# Altium integrated library Xilinx Spartan-3.IntLib: 174 symbols (part 3 of 43)
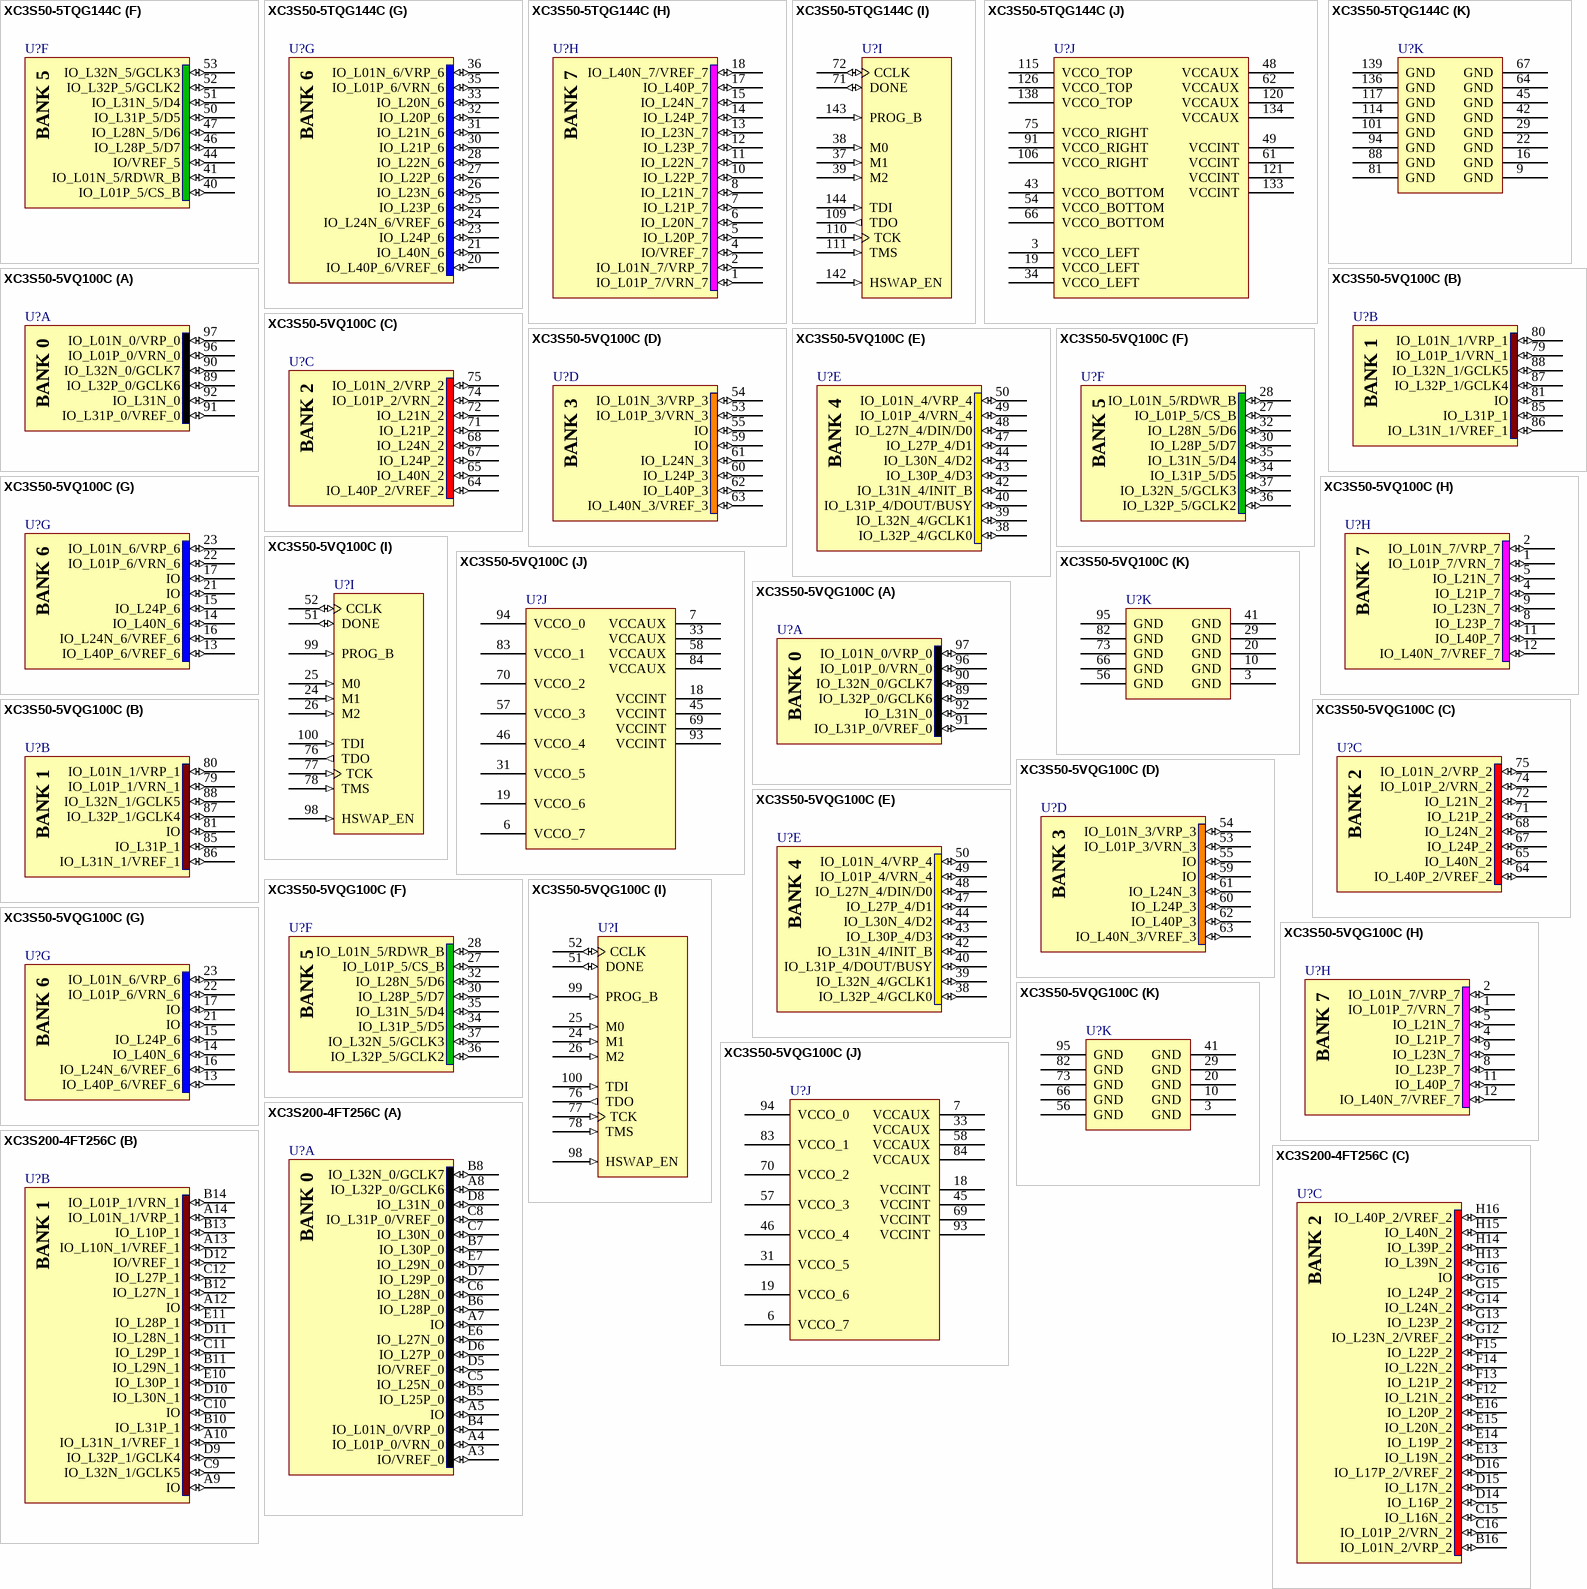
[diagram p194: symbols XC3S50-5TQG144C to XC3S200-4FT256C]

## XC3S50-5TQG144C
designator U?
Spartan-3 1.2V FPGA, 97 User I/Os, 144-Pin TQFP, High Performance, Commercial Grade, Pb-Free; OrderingInformation: Additional code may have to be appended for different mask revision devices.; Published: 16-Dec-2005; LatestRevisionDate: 01-Mar-2010; LatestRevisionNote: Updated to datasheet version 2.5 Dec-2009.; DatasheetVersion: ver2.5, Dec-2009; PackageVersion: ver1.2, Jun-2004; PackageReference: TQG144; Publisher: Altium Limited; PackageDescription: 144-Pin Thin Quad Flat Pack (TQG144) - Pb-Free; Supplier 1: Digi-Key; Supplier Part Number 1: XC3S50-5TQG144C-ND; Supplier 2: Farnell; Supplier Part Number 2: 1605839; Supplier 3: Newark; Supplier Part Number 3: 12N2462; Code_JEDEC: MS-026-BFB; ComponentLink1Description: Spartan-3 Datasheet; ComponentLink1URL: http://www.xilinx.com/support/documentation/data_sheets/ds099.pdf; ComponentLink2Description: TQG144 Package Drawing; ComponentLink2URL: http://www.xilinx.com/support/documentation/package_specs/tq144.pdf; ComponentLink3Description: Spartan-3 Documents; ComponentLink3URL: http://www.xilinx.com/support/documentation/spartan-3.htm; ComponentLink4Description: Xilinx.com Home; ComponentLink4URL: http://www.xilinx.com
footprint TQG144_N (Thin QFP, 144-Leads, Body 20x20mm, Pitch 0.5mm, IPC Medium Density)
footprint TQG144_L (Thin QFP, 144-Leads, Body 20x20mm, Pitch 0.5mm, IPC High Density)
footprint TQG144_M (Thin QFP, 144-Leads, Body 20x20mm, Pitch 0.5mm, IPC Low Density)
signal-integrity model XC3S50_TQ144 (Spartan-3)
part A pins: 127 IO_L32P_0/GCLK6 (io), 128 IO_L32N_0/GCLK7 (io), 129 IO_L31P_0/VREF_0 (io), 130 IO_L31N_0 (io), 131 IO_L30P_0 (io), 132 IO_L30N_0 (io), 135 IO_L27P_0 (io), 137 IO_L27N_0 (io), 140 IO_L01P_0/VRN_0 (io), 141 IO_L01N_0/VRP_0 (io)
part B pins: 112 IO_L01P_1/VRN_1 (io), 113 IO_L01N_1/VRP_1 (io), 116 IO (io), 118 IO_L28P_1 (io), 119 IO_L28N_1 (io), 122 IO_L31P_1 (io), 123 IO_L31N_1/VREF_1 (io), 124 IO_L32P_1/GCLK4 (io), 125 IO_L32N_1/GCLK5 (io)
part C pins: 92 IO_L40P_2/VREF_2 (io), 93 IO_L40N_2 (io), 95 IO_L24P_2 (io), 96 IO_L24N_2 (io), 97 IO_L23P_2 (io), 98 IO_L23N_2/VREF_2 (io), 99 IO_L22P_2 (io), 100 IO_L22N_2 (io), 102 IO_L21P_2 (io), 103 IO_L21N_2 (io), 104 IO_L20P_2 (io), 105 IO_L20N_2 (io), 107 IO_L01P_2/VRN_2 (io), 108 IO_L01N_2/VRP_2 (io)
part D pins: 73 IO_L01P_3/VRN_3 (io), 74 IO_L01N_3/VRP_3 (io), 76 IO (io), 77 IO_L20P_3 (io), 78 IO_L20N_3 (io), 79 IO_L21P_3 (io), 80 IO_L21N_3 (io), 82 IO_L22P_3 (io), 83 IO_L22N_3 (io), 84 IO_L23P_3/VREF_3 (io), 85 IO_L23N_3 (io), 86 IO_L24P_3 (io), 87 IO_L24N_3 (io), 89 IO_L40P_3 (io), 90 IO_L40N_3/VREF_3 (io)
part E pins: 55 IO_L32P_4/GCLK0 (io), 56 IO_L32N_4/GCLK1 (io), 57 IO_L31P_4/DOUT/BUSY (io), 58 IO_L31N_4/INIT_B (io), 59 IO_L30P_4/D3 (io), 60 IO_L30N_4/D2 (io), 63 IO_L27P_4/D1 (io), 65 IO_L27N_4/DIN/D0 (io), 68 IO_L01P_4/VRN_4 (io), 69 IO_L01N_4/VRP_4 (io), 70 IO/VREF_4 (io)
part F pins: 40 IO_L01P_5/CS_B (io), 41 IO_L01N_5/RDWR_B (io), 44 IO/VREF_5 (io), 46 IO_L28P_5/D7 (io), 47 IO_L28N_5/D6 (io), 50 IO_L31P_5/D5 (io), 51 IO_L31N_5/D4 (io), 52 IO_L32P_5/GCLK2 (io), 53 IO_L32N_5/GCLK3 (io)
part G pins: 20 IO_L40P_6/VREF_6 (io), 21 IO_L40N_6 (io), 23 IO_L24P_6 (io), 24 IO_L24N_6/VREF_6 (io), 25 IO_L23P_6 (io), 26 IO_L23N_6 (io), 27 IO_L22P_6 (io), 28 IO_L22N_6 (io), 30 IO_L21P_6 (io), 31 IO_L21N_6 (io), 32 IO_L20P_6 (io), 33 IO_L20N_6 (io), 35 IO_L01P_6/VRN_6 (io), 36 IO_L01N_6/VRP_6 (io)
part H pins: 1 IO_L01P_7/VRN_7 (io), 2 IO_L01N_7/VRP_7 (io), 4 IO/VREF_7 (io), 5 IO_L20P_7 (io), 6 IO_L20N_7 (io), 7 IO_L21P_7 (io), 8 IO_L21N_7 (io), 10 IO_L22P_7 (io), 11 IO_L22N_7 (io), 12 IO_L23P_7 (io), 13 IO_L23N_7 (io), 14 IO_L24P_7 (io), 15 IO_L24N_7 (io), 17 IO_L40P_7 (io), 18 IO_L40N_7/VREF_7 (io)
part I pins: 37 M1 (in), 38 M0 (in), 39 M2 (in), 71 DONE (io), 72 CCLK (io), 109 TDO (out), 110 TCK (in), 111 TMS (in), 142 HSWAP_EN (in), 143 PROG_B (in), 144 TDI (in)
part J pins: 3 VCCO_LEFT (power), 19 VCCO_LEFT (power), 34 VCCO_LEFT (power), 43 VCCO_BOTTOM (power), 48 VCCAUX (power), 49 VCCINT (power), 54 VCCO_BOTTOM (power), 61 VCCINT (power), 62 VCCAUX (power), 66 VCCO_BOTTOM (power), 75 VCCO_RIGHT (power), 91 VCCO_RIGHT (power), 106 VCCO_RIGHT (power), 115 VCCO_TOP (power), 120 VCCAUX (power), 121 VCCINT (power), 126 VCCO_TOP (power), 133 VCCINT (power), 134 VCCAUX (power), 138 VCCO_TOP (power)
part K pins: 9 GND (power), 16 GND (power), 22 GND (power), 29 GND (power), 42 GND (power), 45 GND (power), 64 GND (power), 67 GND (power), 81 GND (power), 88 GND (power), 94 GND (power), 101 GND (power), 114 GND (power), 117 GND (power), 136 GND (power), 139 GND (power)
part A text: BANK 0
part B text: BANK 1
part C text: BANK 2
part D text: BANK 3
part E text: BANK 4
part F text: BANK 5
part G text: BANK 6
part H text: BANK 7

## XC3S50-5VQ100C
designator U?
Spartan-3 1.2V FPGA, 63 User I/Os, 100-Pin VQFP, High Performance, Commercial Grade; OrderingInformation: Additional code may have to be appended for different mask revision devices.; Published: 17-Sep-2003; LatestRevisionDate: 01-Mar-2010; LatestRevisionNote: Updated to datasheet version 2.5 Dec-2009.; DatasheetVersion: ver2.5, Dec-2009; PackageVersion: ver1.2.1, Feb-2007; PackageReference: VQ100; Publisher: Altium Limited; PackageDescription: 100-Pin Very Thin Quad Flat Pack (VQ100); Code_JEDEC: MS-026-AED; ComponentLink1Description: Spartan-3 Datasheet; ComponentLink1URL: http://www.xilinx.com/support/documentation/data_sheets/ds099.pdf; ComponentLink2Description: VQ100 Package Drawing; ComponentLink2URL: http://www.xilinx.com/support/documentation/package_specs/vq100.pdf; ComponentLink3Description: Spartan-3 Documents; ComponentLink3URL: http://www.xilinx.com/support/documentation/spartan-3.htm; ComponentLink4Description: Xilinx.com Home; ComponentLink4URL: http://www.xilinx.com
footprint VQ100_N (Thin QFP, 100-Leads, Body 14x14mm, Pitch 0.5mm, IPC Medium Density)
footprint VQ100_L (Thin QFP, 100-Leads, Body 14x14mm, Pitch 0.5mm, IPC High Density)
footprint VQ100_M (Thin QFP, 100-Leads, Body 14x14mm, Pitch 0.5mm, IPC Low Density)
signal-integrity model XC3S50_VQ100 (Spartan-3)
part A pins: 89 IO_L32P_0/GCLK6 (io), 90 IO_L32N_0/GCLK7 (io), 91 IO_L31P_0/VREF_0 (io), 92 IO_L31N_0 (io), 96 IO_L01P_0/VRN_0 (io), 97 IO_L01N_0/VRP_0 (io)
part B pins: 79 IO_L01P_1/VRN_1 (io), 80 IO_L01N_1/VRP_1 (io), 81 IO (io), 85 IO_L31P_1 (io), 86 IO_L31N_1/VREF_1 (io), 87 IO_L32P_1/GCLK4 (io), 88 IO_L32N_1/GCLK5 (io)
part C pins: 64 IO_L40P_2/VREF_2 (io), 65 IO_L40N_2 (io), 67 IO_L24P_2 (io), 68 IO_L24N_2 (io), 71 IO_L21P_2 (io), 72 IO_L21N_2 (io), 74 IO_L01P_2/VRN_2 (io), 75 IO_L01N_2/VRP_2 (io)
part D pins: 53 IO_L01P_3/VRN_3 (io), 54 IO_L01N_3/VRP_3 (io), 55 IO (io), 59 IO (io), 60 IO_L24P_3 (io), 61 IO_L24N_3 (io), 62 IO_L40P_3 (io), 63 IO_L40N_3/VREF_3 (io)
part E pins: 38 IO_L32P_4/GCLK0 (io), 39 IO_L32N_4/GCLK1 (io), 40 IO_L31P_4/DOUT/BUSY (io), 42 IO_L31N_4/INIT_B (io), 43 IO_L30P_4/D3 (io), 44 IO_L30N_4/D2 (io), 47 IO_L27P_4/D1 (io), 48 IO_L27N_4/DIN/D0 (io), 49 IO_L01P_4/VRN_4 (io), 50 IO_L01N_4/VRP_4 (io)
part F pins: 27 IO_L01P_5/CS_B (io), 28 IO_L01N_5/RDWR_B (io), 30 IO_L28P_5/D7 (io), 32 IO_L28N_5/D6 (io), 34 IO_L31P_5/D5 (io), 35 IO_L31N_5/D4 (io), 36 IO_L32P_5/GCLK2 (io), 37 IO_L32N_5/GCLK3 (io)
part G pins: 13 IO_L40P_6/VREF_6 (io), 14 IO_L40N_6 (io), 15 IO_L24P_6 (io), 16 IO_L24N_6/VREF_6 (io), 17 IO (io), 21 IO (io), 22 IO_L01P_6/VRN_6 (io), 23 IO_L01N_6/VRP_6 (io)
part H pins: 1 IO_L01P_7/VRN_7 (io), 2 IO_L01N_7/VRP_7 (io), 4 IO_L21P_7 (io), 5 IO_L21N_7 (io), 8 IO_L23P_7 (io), 9 IO_L23N_7 (io), 11 IO_L40P_7 (io), 12 IO_L40N_7/VREF_7 (io)
part I pins: 24 M1 (in), 25 M0 (in), 26 M2 (in), 51 DONE (io), 52 CCLK (io), 76 TDO (out), 77 TCK (in), 78 TMS (in), 98 HSWAP_EN (in), 99 PROG_B (in), 100 TDI (in)
part J pins: 6 VCCO_7 (power), 7 VCCAUX (power), 18 VCCINT (power), 19 VCCO_6 (power), 31 VCCO_5 (power), 33 VCCAUX (power), 45 VCCINT (power), 46 VCCO_4 (power), 57 VCCO_3 (power), 58 VCCAUX (power), 69 VCCINT (power), 70 VCCO_2 (power), 83 VCCO_1 (power), 84 VCCAUX (power), 93 VCCINT (power), 94 VCCO_0 (power)
part K pins: 3 GND (power), 10 GND (power), 20 GND (power), 29 GND (power), 41 GND (power), 56 GND (power), 66 GND (power), 73 GND (power), 82 GND (power), 95 GND (power)
part A text: BANK 0
part B text: BANK 1
part C text: BANK 2
part D text: BANK 3
part E text: BANK 4
part F text: BANK 5
part G text: BANK 6
part H text: BANK 7

## XC3S50-5VQG100C
designator U?
Spartan-3 1.2V FPGA, 63 User I/Os, 100-Pin VQFP, High Performance, Commercial Grade, Pb-Free; OrderingInformation: Additional code may have to be appended for different mask revision devices.; Published: 16-Dec-2005; LatestRevisionDate: 01-Mar-2010; LatestRevisionNote: Updated to datasheet version 2.5 Dec-2009.; DatasheetVersion: ver2.5, Dec-2009; PackageVersion: ver1.2.1, Feb-2007; PackageReference: VQG100; Publisher: Altium Limited; PackageDescription: 100-Pin Very Thin Quad Flat Pack (VQG100) - Pb-Free; Supplier 1: Digi-Key; Supplier Part Number 1: XC3S50-5VQG100C-ND; Code_JEDEC: MS-026-AED; ComponentLink1Description: Spartan-3 Datasheet; ComponentLink1URL: http://www.xilinx.com/support/documentation/data_sheets/ds099.pdf; ComponentLink2Description: VQG100 Package Drawing; ComponentLink2URL: http://www.xilinx.com/support/documentation/package_specs/vq100.pdf; ComponentLink3Description: Spartan-3 Documents; ComponentLink3URL: http://www.xilinx.com/support/documentation/spartan-3.htm; ComponentLink4Description: Xilinx.com Home; ComponentLink4URL: http://www.xilinx.com
footprint VQG100_N (Thin QFP, 100-Leads, Body 14x14mm, Pitch 0.5mm, IPC Medium Density)
footprint VQG100_L (Thin QFP, 100-Leads, Body 14x14mm, Pitch 0.5mm, IPC High Density)
footprint VQG100_M (Thin QFP, 100-Leads, Body 14x14mm, Pitch 0.5mm, IPC Low Density)
signal-integrity model XC3S50_VQ100 (Spartan-3)
part A pins: 89 IO_L32P_0/GCLK6 (io), 90 IO_L32N_0/GCLK7 (io), 91 IO_L31P_0/VREF_0 (io), 92 IO_L31N_0 (io), 96 IO_L01P_0/VRN_0 (io), 97 IO_L01N_0/VRP_0 (io)
part B pins: 79 IO_L01P_1/VRN_1 (io), 80 IO_L01N_1/VRP_1 (io), 81 IO (io), 85 IO_L31P_1 (io), 86 IO_L31N_1/VREF_1 (io), 87 IO_L32P_1/GCLK4 (io), 88 IO_L32N_1/GCLK5 (io)
part C pins: 64 IO_L40P_2/VREF_2 (io), 65 IO_L40N_2 (io), 67 IO_L24P_2 (io), 68 IO_L24N_2 (io), 71 IO_L21P_2 (io), 72 IO_L21N_2 (io), 74 IO_L01P_2/VRN_2 (io), 75 IO_L01N_2/VRP_2 (io)
part D pins: 53 IO_L01P_3/VRN_3 (io), 54 IO_L01N_3/VRP_3 (io), 55 IO (io), 59 IO (io), 60 IO_L24P_3 (io), 61 IO_L24N_3 (io), 62 IO_L40P_3 (io), 63 IO_L40N_3/VREF_3 (io)
part E pins: 38 IO_L32P_4/GCLK0 (io), 39 IO_L32N_4/GCLK1 (io), 40 IO_L31P_4/DOUT/BUSY (io), 42 IO_L31N_4/INIT_B (io), 43 IO_L30P_4/D3 (io), 44 IO_L30N_4/D2 (io), 47 IO_L27P_4/D1 (io), 48 IO_L27N_4/DIN/D0 (io), 49 IO_L01P_4/VRN_4 (io), 50 IO_L01N_4/VRP_4 (io)
part F pins: 27 IO_L01P_5/CS_B (io), 28 IO_L01N_5/RDWR_B (io), 30 IO_L28P_5/D7 (io), 32 IO_L28N_5/D6 (io), 34 IO_L31P_5/D5 (io), 35 IO_L31N_5/D4 (io), 36 IO_L32P_5/GCLK2 (io), 37 IO_L32N_5/GCLK3 (io)
part G pins: 13 IO_L40P_6/VREF_6 (io), 14 IO_L40N_6 (io), 15 IO_L24P_6 (io), 16 IO_L24N_6/VREF_6 (io), 17 IO (io), 21 IO (io), 22 IO_L01P_6/VRN_6 (io), 23 IO_L01N_6/VRP_6 (io)
part H pins: 1 IO_L01P_7/VRN_7 (io), 2 IO_L01N_7/VRP_7 (io), 4 IO_L21P_7 (io), 5 IO_L21N_7 (io), 8 IO_L23P_7 (io), 9 IO_L23N_7 (io), 11 IO_L40P_7 (io), 12 IO_L40N_7/VREF_7 (io)
part I pins: 24 M1 (in), 25 M0 (in), 26 M2 (in), 51 DONE (io), 52 CCLK (io), 76 TDO (out), 77 TCK (in), 78 TMS (in), 98 HSWAP_EN (in), 99 PROG_B (in), 100 TDI (in)
part J pins: 6 VCCO_7 (power), 7 VCCAUX (power), 18 VCCINT (power), 19 VCCO_6 (power), 31 VCCO_5 (power), 33 VCCAUX (power), 45 VCCINT (power), 46 VCCO_4 (power), 57 VCCO_3 (power), 58 VCCAUX (power), 69 VCCINT (power), 70 VCCO_2 (power), 83 VCCO_1 (power), 84 VCCAUX (power), 93 VCCINT (power), 94 VCCO_0 (power)
part K pins: 3 GND (power), 10 GND (power), 20 GND (power), 29 GND (power), 41 GND (power), 56 GND (power), 66 GND (power), 73 GND (power), 82 GND (power), 95 GND (power)
part A text: BANK 0
part B text: BANK 1
part C text: BANK 2
part D text: BANK 3
part E text: BANK 4
part F text: BANK 5
part G text: BANK 6
part H text: BANK 7

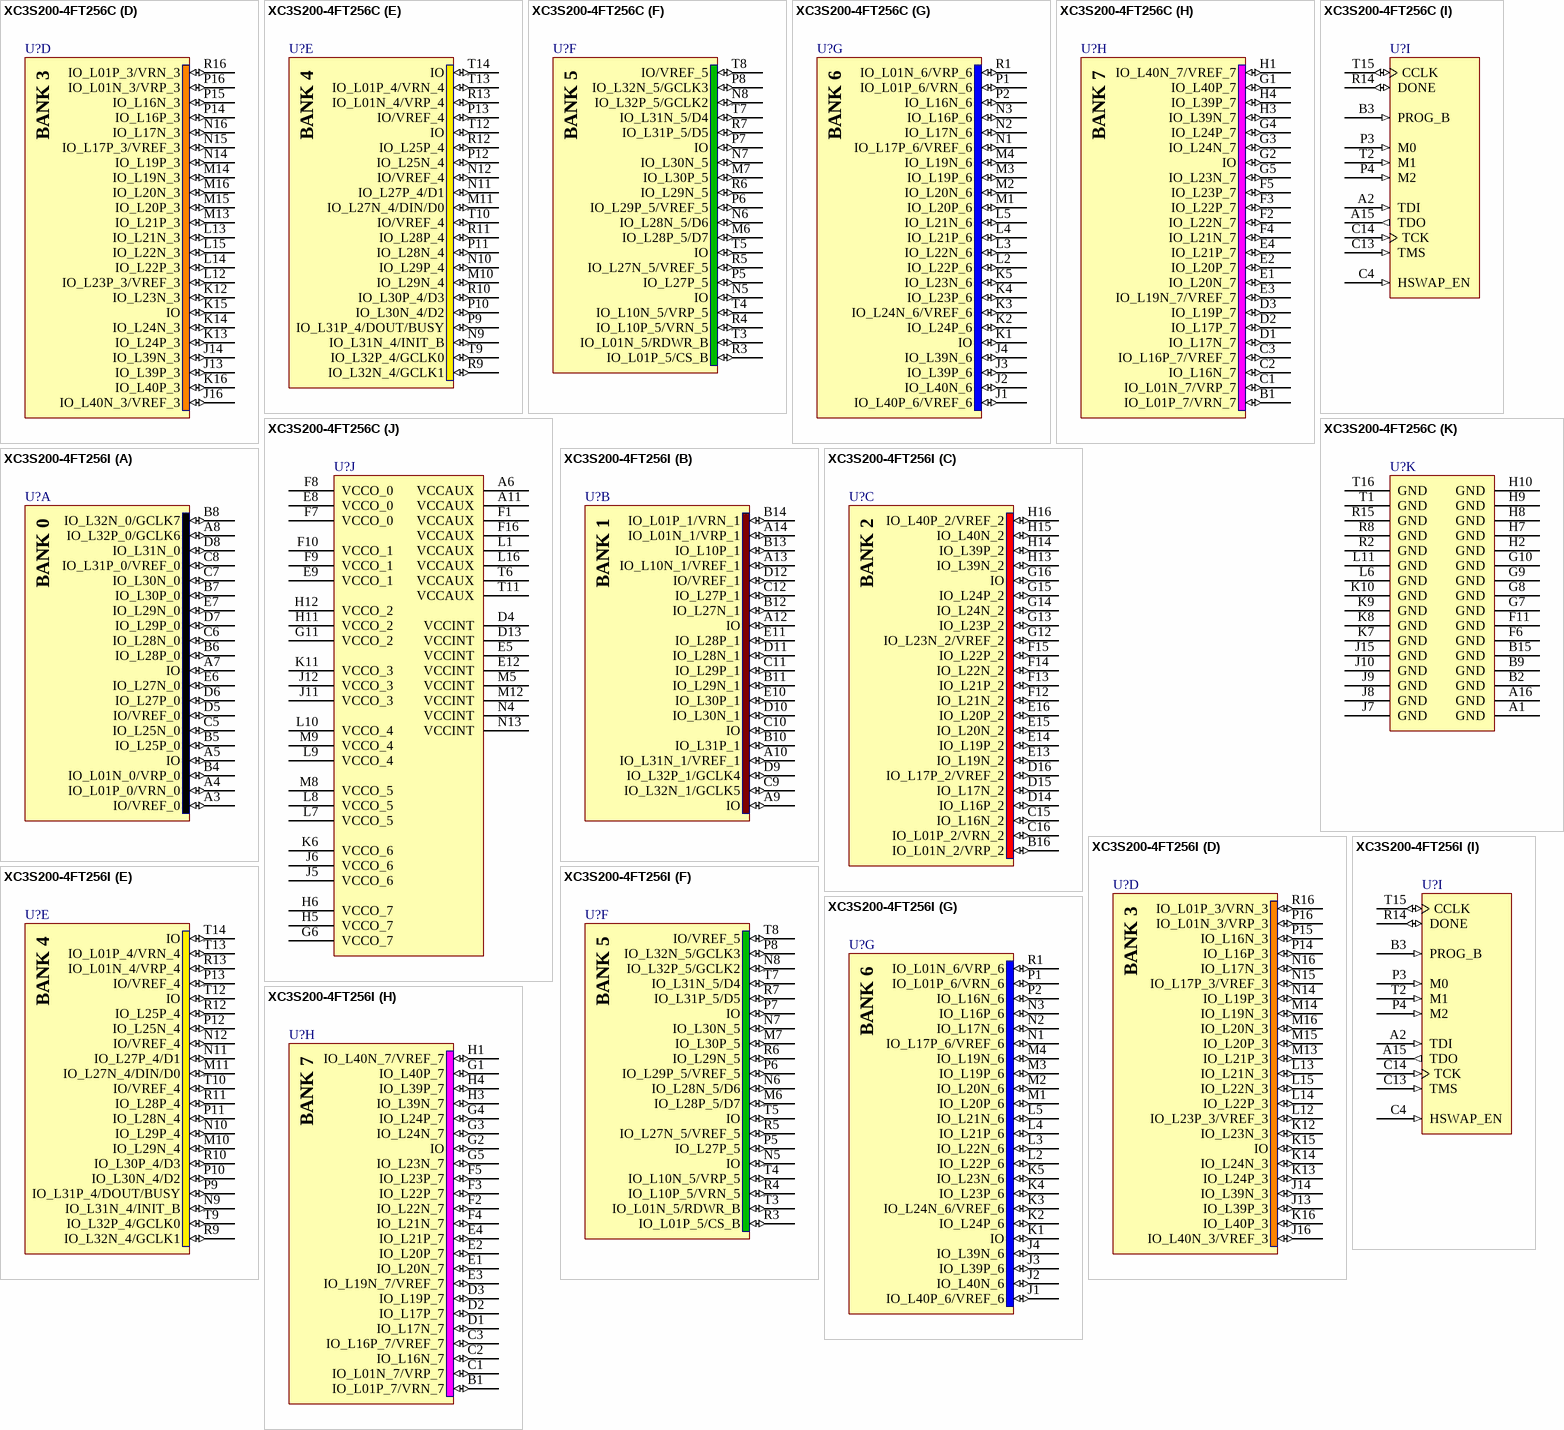
[diagram p10: symbols XC3S200-4FT256C to XC3S200-4FT256I]

## XC3S200-4FT256C
designator U?
Spartan-3 1.2V FPGA, 173 User I/Os, 256-Ball FTBGA, Standard Performance, Commercial Grade; OrderingInformation: Additional code may have to be appended for different mask revision devices.; Published: 17-Sep-2003; LatestRevisionDate: 01-Mar-2010; LatestRevisionNote: Updated to datasheet version 2.5 Dec-2009.; DatasheetVersion: ver2.5, Dec-2009; PackageVersion: ver1.3, Oct-2007; PackageReference: FT256; Publisher: Altium Limited; PackageDescription: 256-Ball Fine Pitch Thin Ball Grid Array 1.00 mm Pitch (FT256); Supplier 1: Newark; Supplier Part Number 1: 70K9900; Code_JEDEC: MS-034-AAF-1*; ComponentLink1Description: Spartan-3 Datasheet; ComponentLink1URL: http://www.xilinx.com/support/documentation/data_sheets/ds099.pdf; ComponentLink2Description: FT256 Package Drawing; ComponentLink2URL: http://www.xilinx.com/support/documentation/package_specs/ft256.pdf; ComponentLink3Description: Spartan-3 Documents; ComponentLink3URL: http://www.xilinx.com/support/documentation/spartan-3.htm; ComponentLink4Description: Xilinx.com Home; ComponentLink4URL: http://www.xilinx.com
footprint FT256 (BGA, 256-Leads, Body 17x17mm, Pitch 1mm)
signal-integrity model XC3S200_FT256 (Spartan-3)
part A pins: A3 IO/VREF_0 (io), A4 IO_L01P_0/VRN_0 (io), A5 IO (io), A7 IO (io), A8 IO_L32P_0/GCLK6 (io), B4 IO_L01N_0/VRP_0 (io), B5 IO_L25P_0 (io), B6 IO_L28P_0 (io), B7 IO_L30P_0 (io), B8 IO_L32N_0/GCLK7 (io), C5 IO_L25N_0 (io), C6 IO_L28N_0 (io), C7 IO_L30N_0 (io), C8 IO_L31P_0/VREF_0 (io), D5 IO/VREF_0 (io), D6 IO_L27P_0 (io), D7 IO_L29P_0 (io), D8 IO_L31N_0 (io), E6 IO_L27N_0 (io), E7 IO_L29N_0 (io)
part B pins: A9 IO (io), A10 IO_L31N_1/VREF_1 (io), A12 IO (io), A13 IO_L10N_1/VREF_1 (io), A14 IO_L01N_1/VRP_1 (io), B10 IO_L31P_1 (io), B11 IO_L29N_1 (io), B12 IO_L27N_1 (io), B13 IO_L10P_1 (io), B14 IO_L01P_1/VRN_1 (io), C9 IO_L32N_1/GCLK5 (io), C10 IO (io), C11 IO_L29P_1 (io), C12 IO_L27P_1 (io), D9 IO_L32P_1/GCLK4 (io), D10 IO_L30N_1 (io), D11 IO_L28N_1 (io), D12 IO/VREF_1 (io), E10 IO_L30P_1 (io), E11 IO_L28P_1 (io)
part C pins: B16 IO_L01N_2/VRP_2 (io), C15 IO_L16N_2 (io), C16 IO_L01P_2/VRN_2 (io), D14 IO_L16P_2 (io), D15 IO_L17N_2 (io), D16 IO_L17P_2/VREF_2 (io), E13 IO_L19N_2 (io), E14 IO_L19P_2 (io), E15 IO_L20N_2 (io), E16 IO_L20P_2 (io), F12 IO_L21N_2 (io), F13 IO_L21P_2 (io), F14 IO_L22N_2 (io), F15 IO_L22P_2 (io), G12 IO_L23N_2/VREF_2 (io), G13 IO_L23P_2 (io), G14 IO_L24N_2 (io), G15 IO_L24P_2 (io), G16 IO (io), H13 IO_L39N_2 (io), H14 IO_L39P_2 (io), H15 IO_L40N_2 (io), H16 IO_L40P_2/VREF_2 (io)
part D pins: J13 IO_L39P_3 (io), J14 IO_L39N_3 (io), J16 IO_L40N_3/VREF_3 (io), K12 IO_L23N_3 (io), K13 IO_L24P_3 (io), K14 IO_L24N_3 (io), K15 IO (io), K16 IO_L40P_3 (io), L12 IO_L23P_3/VREF_3 (io), L13 IO_L21N_3 (io), L14 IO_L22P_3 (io), L15 IO_L22N_3 (io), M13 IO_L21P_3 (io), M14 IO_L19N_3 (io), M15 IO_L20P_3 (io), M16 IO_L20N_3 (io), N14 IO_L19P_3 (io), N15 IO_L17P_3/VREF_3 (io), N16 IO_L17N_3 (io), P14 IO_L16P_3 (io), P15 IO_L16N_3 (io), P16 IO_L01N_3/VRP_3 (io), R16 IO_L01P_3/VRN_3 (io)
part E pins: M10 IO_L29N_4 (io), M11 IO_L27N_4/DIN/D0 (io), N9 IO_L31N_4/INIT_B (io), N10 IO_L29P_4 (io), N11 IO_L27P_4/D1 (io), N12 IO/VREF_4 (io), P9 IO_L31P_4/DOUT/BUSY (io), P10 IO_L30N_4/D2 (io), P11 IO_L28N_4 (io), P12 IO_L25N_4 (io), P13 IO/VREF_4 (io), R9 IO_L32N_4/GCLK1 (io), R10 IO_L30P_4/D3 (io), R11 IO_L28P_4 (io), R12 IO_L25P_4 (io), R13 IO_L01N_4/VRP_4 (io), T9 IO_L32P_4/GCLK0 (io), T10 IO/VREF_4 (io), T12 IO (io), T13 IO_L01P_4/VRN_4 (io), T14 IO (io)
part F pins: M6 IO_L28P_5/D7 (io), M7 IO_L30P_5 (io), N5 IO (io), N6 IO_L28N_5/D6 (io), N7 IO_L30N_5 (io), N8 IO_L32P_5/GCLK2 (io), P5 IO_L27P_5 (io), P6 IO_L29P_5/VREF_5 (io), P7 IO (io), P8 IO_L32N_5/GCLK3 (io), R3 IO_L01P_5/CS_B (io), R4 IO_L10P_5/VRN_5 (io), R5 IO_L27N_5/VREF_5 (io), R6 IO_L29N_5 (io), R7 IO_L31P_5/D5 (io), T3 IO_L01N_5/RDWR_B (io), T4 IO_L10N_5/VRP_5 (io), T5 IO (io), T7 IO_L31N_5/D4 (io), T8 IO/VREF_5 (io)
part G pins: J1 IO_L40P_6/VREF_6 (io), J2 IO_L40N_6 (io), J3 IO_L39P_6 (io), J4 IO_L39N_6 (io), K1 IO (io), K2 IO_L24P_6 (io), K3 IO_L24N_6/VREF_6 (io), K4 IO_L23P_6 (io), K5 IO_L23N_6 (io), L2 IO_L22P_6 (io), L3 IO_L22N_6 (io), L4 IO_L21P_6 (io), L5 IO_L21N_6 (io), M1 IO_L20P_6 (io), M2 IO_L20N_6 (io), M3 IO_L19P_6 (io), M4 IO_L19N_6 (io), N1 IO_L17P_6/VREF_6 (io), N2 IO_L17N_6 (io), N3 IO_L16P_6 (io), P1 IO_L01P_6/VRN_6 (io), P2 IO_L16N_6 (io), R1 IO_L01N_6/VRP_6 (io)
part H pins: B1 IO_L01P_7/VRN_7 (io), C1 IO_L01N_7/VRP_7 (io), C2 IO_L16N_7 (io), C3 IO_L16P_7/VREF_7 (io), D1 IO_L17N_7 (io), D2 IO_L17P_7 (io), D3 IO_L19P_7 (io), E1 IO_L20N_7 (io), E2 IO_L20P_7 (io), E3 IO_L19N_7/VREF_7 (io), E4 IO_L21P_7 (io), F2 IO_L22N_7 (io), F3 IO_L22P_7 (io), F4 IO_L21N_7 (io), F5 IO_L23P_7 (io), G1 IO_L40P_7 (io), G2 IO (io), G3 IO_L24N_7 (io), G4 IO_L24P_7 (io), G5 IO_L23N_7 (io), H1 IO_L40N_7/VREF_7 (io), H3 IO_L39N_7 (io), H4 IO_L39P_7 (io)
part I pins: A2 TDI (in), A15 TDO (out), B3 PROG_B (in), C4 HSWAP_EN (in), C13 TMS (in), C14 TCK (in), P3 M0 (in), P4 M2 (in), R14 DONE (io), T2 M1 (in), T15 CCLK (io)
part J pins: A6 VCCAUX (power), A11 VCCAUX (power), D4 VCCINT (power), D13 VCCINT (power), E5 VCCINT (power), E8 VCCO_0 (power), E9 VCCO_1 (power), E12 VCCINT (power), F1 VCCAUX (power), F7 VCCO_0 (power), F8 VCCO_0 (power), F9 VCCO_1 (power), F10 VCCO_1 (power), F16 VCCAUX (power), G6 VCCO_7 (power), G11 VCCO_2 (power), H5 VCCO_7 (power), H6 VCCO_7 (power), H11 VCCO_2 (power), H12 VCCO_2 (power), J5 VCCO_6 (power), J6 VCCO_6 (power), J11 VCCO_3 (power), J12 VCCO_3 (power), K6 VCCO_6 (power), K11 VCCO_3 (power), L1 VCCAUX (power), L7 VCCO_5 (power), L8 VCCO_5 (power), L9 VCCO_4 (power), L10 VCCO_4 (power), L16 VCCAUX (power), M5 VCCINT (power), M8 VCCO_5 (power), M9 VCCO_4 (power), M12 VCCINT (power), N4 VCCINT (power), N13 VCCINT (power), T6 VCCAUX (power), T11 VCCAUX (power)
part K pins: A1 GND (power), A16 GND (power), B2 GND (power), B9 GND (power), B15 GND (power), F6 GND (power), F11 GND (power), G7 GND (power), G8 GND (power), G9 GND (power), G10 GND (power), H2 GND (power), H7 GND (power), H8 GND (power), H9 GND (power), H10 GND (power), J7 GND (power), J8 GND (power), J9 GND (power), J10 GND (power), J15 GND (power), K7 GND (power), K8 GND (power), K9 GND (power), K10 GND (power), L6 GND (power), L11 GND (power), R2 GND (power), R8 GND (power), R15 GND (power), T1 GND (power), T16 GND (power)
part A text: BANK 0
part B text: BANK 1
part C text: BANK 2
part D text: BANK 3
part E text: BANK 4
part F text: BANK 5
part G text: BANK 6
part H text: BANK 7

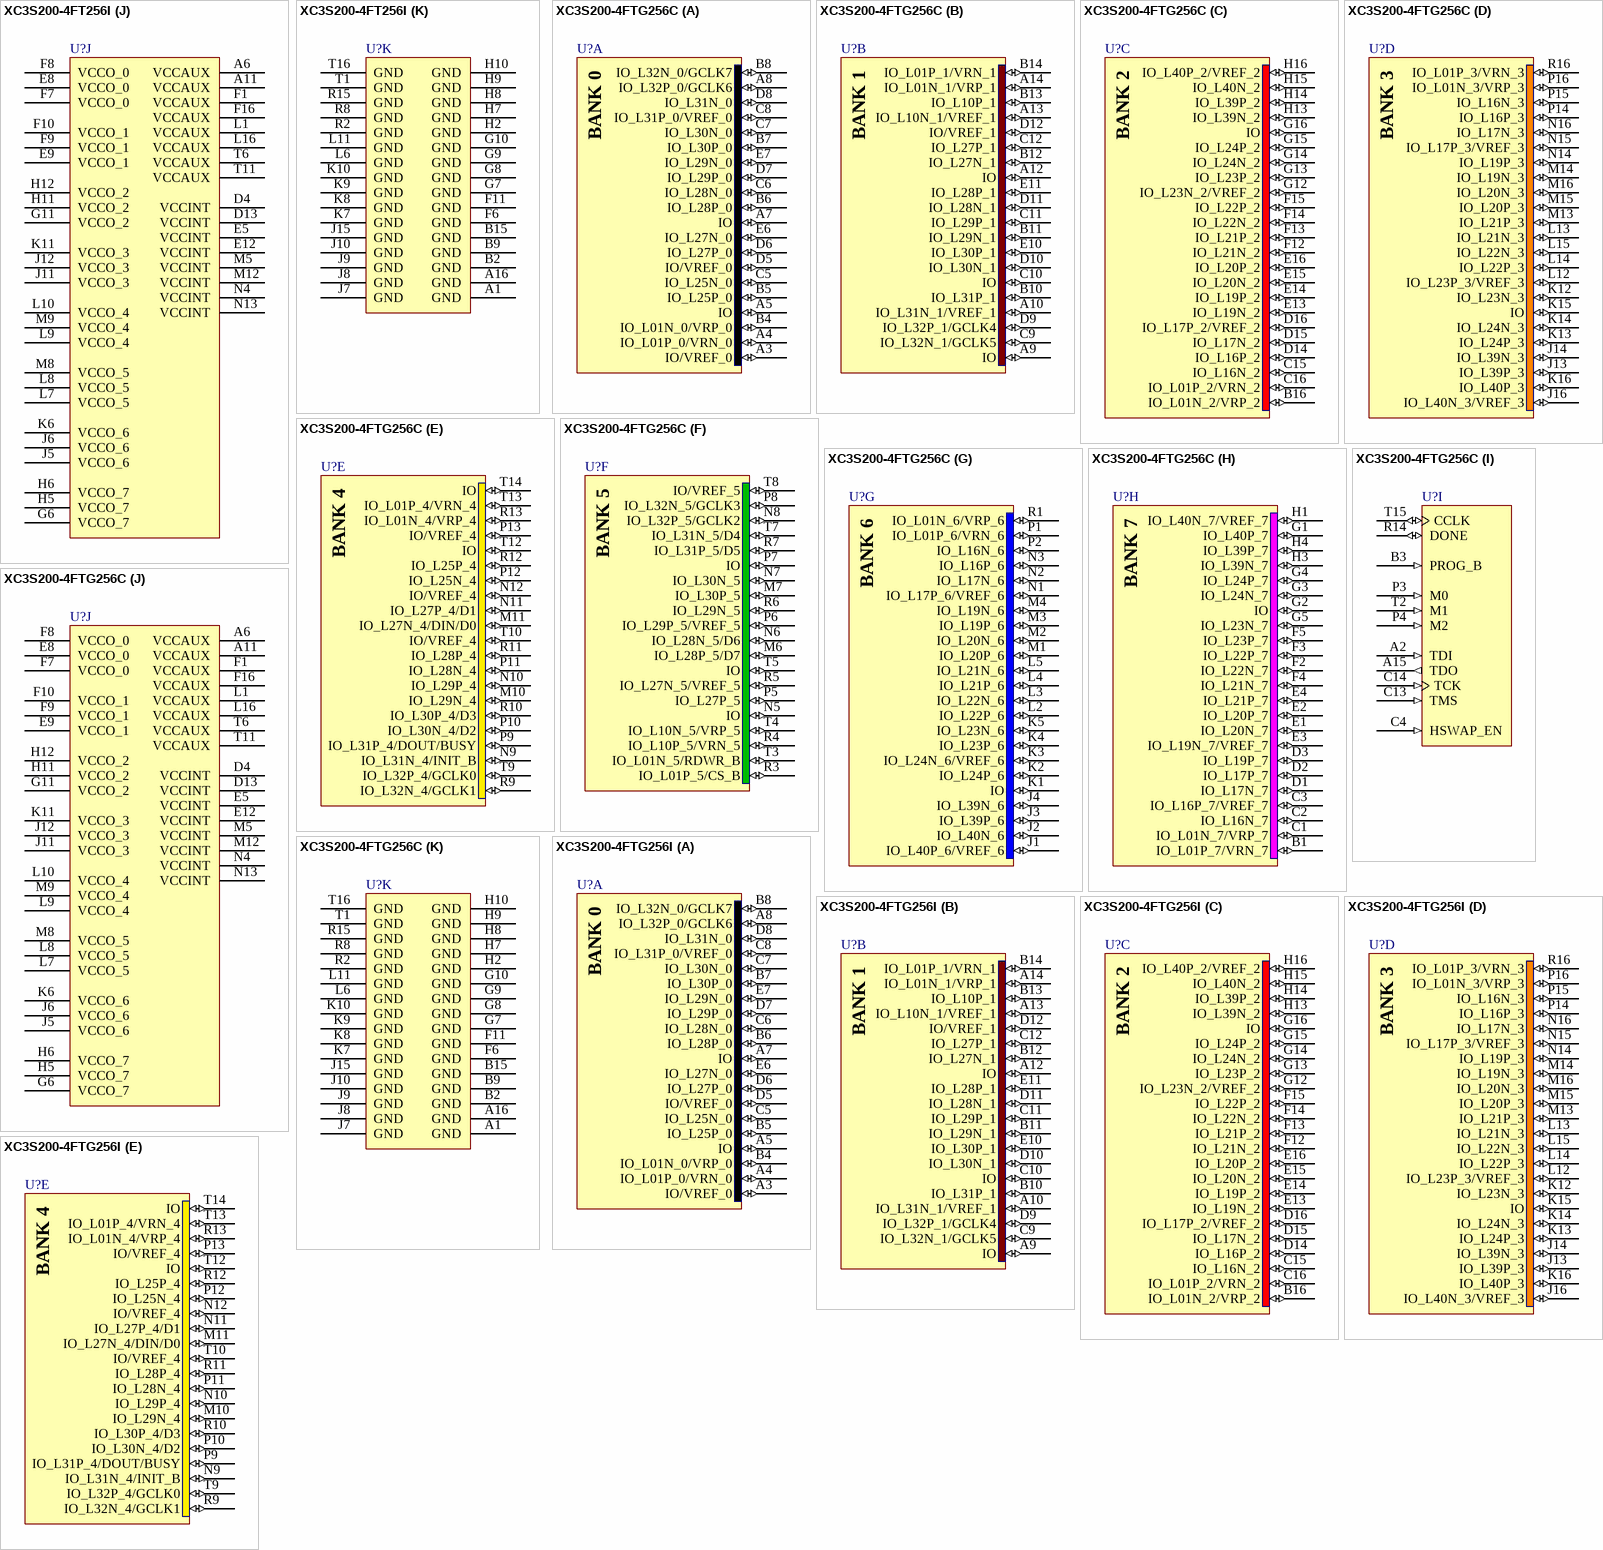
[diagram p11: symbols XC3S200-4FT256I to XC3S200-4FTG256I]

## XC3S200-4FT256I
designator U?
Spartan-3 1.2V FPGA, 173 User I/Os, 256-Ball FTBGA, Standard Performance, Industrial Grade; OrderingInformation: Additional code may have to be appended for different mask revision devices.; Published: 17-Sep-2003; LatestRevisionDate: 01-Mar-2010; LatestRevisionNote: Updated to datasheet version 2.5 Dec-2009.; DatasheetVersion: ver2.5, Dec-2009; PackageVersion: ver1.3, Oct-2007; PackageReference: FT256; Publisher: Altium Limited; PackageDescription: 256-Ball Fine Pitch Thin Ball Grid Array 1.00 mm Pitch (FT256); Code_JEDEC: MS-034-AAF-1*; ComponentLink1Description: Spartan-3 Datasheet; ComponentLink1URL: http://www.xilinx.com/support/documentation/data_sheets/ds099.pdf; ComponentLink2Description: FT256 Package Drawing; ComponentLink2URL: http://www.xilinx.com/support/documentation/package_specs/ft256.pdf; ComponentLink3Description: Spartan-3 Documents; ComponentLink3URL: http://www.xilinx.com/support/documentation/spartan-3.htm; ComponentLink4Description: Xilinx.com Home; ComponentLink4URL: http://www.xilinx.com
footprint FT256 (BGA, 256-Leads, Body 17x17mm, Pitch 1mm)
signal-integrity model XC3S200_FT256 (Spartan-3)
part A pins: A3 IO/VREF_0 (io), A4 IO_L01P_0/VRN_0 (io), A5 IO (io), A7 IO (io), A8 IO_L32P_0/GCLK6 (io), B4 IO_L01N_0/VRP_0 (io), B5 IO_L25P_0 (io), B6 IO_L28P_0 (io), B7 IO_L30P_0 (io), B8 IO_L32N_0/GCLK7 (io), C5 IO_L25N_0 (io), C6 IO_L28N_0 (io), C7 IO_L30N_0 (io), C8 IO_L31P_0/VREF_0 (io), D5 IO/VREF_0 (io), D6 IO_L27P_0 (io), D7 IO_L29P_0 (io), D8 IO_L31N_0 (io), E6 IO_L27N_0 (io), E7 IO_L29N_0 (io)
part B pins: A9 IO (io), A10 IO_L31N_1/VREF_1 (io), A12 IO (io), A13 IO_L10N_1/VREF_1 (io), A14 IO_L01N_1/VRP_1 (io), B10 IO_L31P_1 (io), B11 IO_L29N_1 (io), B12 IO_L27N_1 (io), B13 IO_L10P_1 (io), B14 IO_L01P_1/VRN_1 (io), C9 IO_L32N_1/GCLK5 (io), C10 IO (io), C11 IO_L29P_1 (io), C12 IO_L27P_1 (io), D9 IO_L32P_1/GCLK4 (io), D10 IO_L30N_1 (io), D11 IO_L28N_1 (io), D12 IO/VREF_1 (io), E10 IO_L30P_1 (io), E11 IO_L28P_1 (io)
part C pins: B16 IO_L01N_2/VRP_2 (io), C15 IO_L16N_2 (io), C16 IO_L01P_2/VRN_2 (io), D14 IO_L16P_2 (io), D15 IO_L17N_2 (io), D16 IO_L17P_2/VREF_2 (io), E13 IO_L19N_2 (io), E14 IO_L19P_2 (io), E15 IO_L20N_2 (io), E16 IO_L20P_2 (io), F12 IO_L21N_2 (io), F13 IO_L21P_2 (io), F14 IO_L22N_2 (io), F15 IO_L22P_2 (io), G12 IO_L23N_2/VREF_2 (io), G13 IO_L23P_2 (io), G14 IO_L24N_2 (io), G15 IO_L24P_2 (io), G16 IO (io), H13 IO_L39N_2 (io), H14 IO_L39P_2 (io), H15 IO_L40N_2 (io), H16 IO_L40P_2/VREF_2 (io)
part D pins: J13 IO_L39P_3 (io), J14 IO_L39N_3 (io), J16 IO_L40N_3/VREF_3 (io), K12 IO_L23N_3 (io), K13 IO_L24P_3 (io), K14 IO_L24N_3 (io), K15 IO (io), K16 IO_L40P_3 (io), L12 IO_L23P_3/VREF_3 (io), L13 IO_L21N_3 (io), L14 IO_L22P_3 (io), L15 IO_L22N_3 (io), M13 IO_L21P_3 (io), M14 IO_L19N_3 (io), M15 IO_L20P_3 (io), M16 IO_L20N_3 (io), N14 IO_L19P_3 (io), N15 IO_L17P_3/VREF_3 (io), N16 IO_L17N_3 (io), P14 IO_L16P_3 (io), P15 IO_L16N_3 (io), P16 IO_L01N_3/VRP_3 (io), R16 IO_L01P_3/VRN_3 (io)
part E pins: M10 IO_L29N_4 (io), M11 IO_L27N_4/DIN/D0 (io), N9 IO_L31N_4/INIT_B (io), N10 IO_L29P_4 (io), N11 IO_L27P_4/D1 (io), N12 IO/VREF_4 (io), P9 IO_L31P_4/DOUT/BUSY (io), P10 IO_L30N_4/D2 (io), P11 IO_L28N_4 (io), P12 IO_L25N_4 (io), P13 IO/VREF_4 (io), R9 IO_L32N_4/GCLK1 (io), R10 IO_L30P_4/D3 (io), R11 IO_L28P_4 (io), R12 IO_L25P_4 (io), R13 IO_L01N_4/VRP_4 (io), T9 IO_L32P_4/GCLK0 (io), T10 IO/VREF_4 (io), T12 IO (io), T13 IO_L01P_4/VRN_4 (io), T14 IO (io)
part F pins: M6 IO_L28P_5/D7 (io), M7 IO_L30P_5 (io), N5 IO (io), N6 IO_L28N_5/D6 (io), N7 IO_L30N_5 (io), N8 IO_L32P_5/GCLK2 (io), P5 IO_L27P_5 (io), P6 IO_L29P_5/VREF_5 (io), P7 IO (io), P8 IO_L32N_5/GCLK3 (io), R3 IO_L01P_5/CS_B (io), R4 IO_L10P_5/VRN_5 (io), R5 IO_L27N_5/VREF_5 (io), R6 IO_L29N_5 (io), R7 IO_L31P_5/D5 (io), T3 IO_L01N_5/RDWR_B (io), T4 IO_L10N_5/VRP_5 (io), T5 IO (io), T7 IO_L31N_5/D4 (io), T8 IO/VREF_5 (io)
part G pins: J1 IO_L40P_6/VREF_6 (io), J2 IO_L40N_6 (io), J3 IO_L39P_6 (io), J4 IO_L39N_6 (io), K1 IO (io), K2 IO_L24P_6 (io), K3 IO_L24N_6/VREF_6 (io), K4 IO_L23P_6 (io), K5 IO_L23N_6 (io), L2 IO_L22P_6 (io), L3 IO_L22N_6 (io), L4 IO_L21P_6 (io), L5 IO_L21N_6 (io), M1 IO_L20P_6 (io), M2 IO_L20N_6 (io), M3 IO_L19P_6 (io), M4 IO_L19N_6 (io), N1 IO_L17P_6/VREF_6 (io), N2 IO_L17N_6 (io), N3 IO_L16P_6 (io), P1 IO_L01P_6/VRN_6 (io), P2 IO_L16N_6 (io), R1 IO_L01N_6/VRP_6 (io)
part H pins: B1 IO_L01P_7/VRN_7 (io), C1 IO_L01N_7/VRP_7 (io), C2 IO_L16N_7 (io), C3 IO_L16P_7/VREF_7 (io), D1 IO_L17N_7 (io), D2 IO_L17P_7 (io), D3 IO_L19P_7 (io), E1 IO_L20N_7 (io), E2 IO_L20P_7 (io), E3 IO_L19N_7/VREF_7 (io), E4 IO_L21P_7 (io), F2 IO_L22N_7 (io), F3 IO_L22P_7 (io), F4 IO_L21N_7 (io), F5 IO_L23P_7 (io), G1 IO_L40P_7 (io), G2 IO (io), G3 IO_L24N_7 (io), G4 IO_L24P_7 (io), G5 IO_L23N_7 (io), H1 IO_L40N_7/VREF_7 (io), H3 IO_L39N_7 (io), H4 IO_L39P_7 (io)
part I pins: A2 TDI (in), A15 TDO (out), B3 PROG_B (in), C4 HSWAP_EN (in), C13 TMS (in), C14 TCK (in), P3 M0 (in), P4 M2 (in), R14 DONE (io), T2 M1 (in), T15 CCLK (io)
part J pins: A6 VCCAUX (power), A11 VCCAUX (power), D4 VCCINT (power), D13 VCCINT (power), E5 VCCINT (power), E8 VCCO_0 (power), E9 VCCO_1 (power), E12 VCCINT (power), F1 VCCAUX (power), F7 VCCO_0 (power), F8 VCCO_0 (power), F9 VCCO_1 (power), F10 VCCO_1 (power), F16 VCCAUX (power), G6 VCCO_7 (power), G11 VCCO_2 (power), H5 VCCO_7 (power), H6 VCCO_7 (power), H11 VCCO_2 (power), H12 VCCO_2 (power), J5 VCCO_6 (power), J6 VCCO_6 (power), J11 VCCO_3 (power), J12 VCCO_3 (power), K6 VCCO_6 (power), K11 VCCO_3 (power), L1 VCCAUX (power), L7 VCCO_5 (power), L8 VCCO_5 (power), L9 VCCO_4 (power), L10 VCCO_4 (power), L16 VCCAUX (power), M5 VCCINT (power), M8 VCCO_5 (power), M9 VCCO_4 (power), M12 VCCINT (power), N4 VCCINT (power), N13 VCCINT (power), T6 VCCAUX (power), T11 VCCAUX (power)
part K pins: A1 GND (power), A16 GND (power), B2 GND (power), B9 GND (power), B15 GND (power), F6 GND (power), F11 GND (power), G7 GND (power), G8 GND (power), G9 GND (power), G10 GND (power), H2 GND (power), H7 GND (power), H8 GND (power), H9 GND (power), H10 GND (power), J7 GND (power), J8 GND (power), J9 GND (power), J10 GND (power), J15 GND (power), K7 GND (power), K8 GND (power), K9 GND (power), K10 GND (power), L6 GND (power), L11 GND (power), R2 GND (power), R8 GND (power), R15 GND (power), T1 GND (power), T16 GND (power)
part A text: BANK 0
part B text: BANK 1
part C text: BANK 2
part D text: BANK 3
part E text: BANK 4
part F text: BANK 5
part G text: BANK 6
part H text: BANK 7

## XC3S200-4FTG256C
designator U?
Spartan-3 1.2V FPGA, 173 User I/Os, 256-Ball FTBGA, Standard Performance, Commercial Grade, Pb-Free; OrderingInformation: Additional code may have to be appended for different mask revision devices.; Published: 16-Dec-2005; LatestRevisionDate: 01-Mar-2010; LatestRevisionNote: Updated to datasheet version 2.5 Dec-2009.; DatasheetVersion: ver2.5, Dec-2009; PackageVersion: ver1.3, Oct-2007; PackageReference: FTG256; Publisher: Altium Limited; PackageDescription: 256-Ball Fine Pitch Thin Ball Grid Array 1.00 mm Pitch (FTG256) - Pb-Free; Supplier 1: Digi-Key; Supplier Part Number 1: 122-1338-ND; Code_JEDEC: MS-034-AAF-1*; ComponentLink1Description: Spartan-3 Datasheet; ComponentLink1URL: http://www.xilinx.com/support/documentation/data_sheets/ds099.pdf; ComponentLink2Description: FTG256 Package Drawing; ComponentLink2URL: http://www.xilinx.com/support/documentation/package_specs/ft256.pdf; ComponentLink3Description: Spartan-3 Documents; ComponentLink3URL: http://www.xilinx.com/support/documentation/spartan-3.htm; ComponentLink4Description: Xilinx.com Home; ComponentLink4URL: http://www.xilinx.com
footprint FTG256 (BGA, 256-Leads, Body 17x17mm, Pitch 1mm)
signal-integrity model XC3S200_FT256 (Spartan-3)
part A pins: A3 IO/VREF_0 (io), A4 IO_L01P_0/VRN_0 (io), A5 IO (io), A7 IO (io), A8 IO_L32P_0/GCLK6 (io), B4 IO_L01N_0/VRP_0 (io), B5 IO_L25P_0 (io), B6 IO_L28P_0 (io), B7 IO_L30P_0 (io), B8 IO_L32N_0/GCLK7 (io), C5 IO_L25N_0 (io), C6 IO_L28N_0 (io), C7 IO_L30N_0 (io), C8 IO_L31P_0/VREF_0 (io), D5 IO/VREF_0 (io), D6 IO_L27P_0 (io), D7 IO_L29P_0 (io), D8 IO_L31N_0 (io), E6 IO_L27N_0 (io), E7 IO_L29N_0 (io)
part B pins: A9 IO (io), A10 IO_L31N_1/VREF_1 (io), A12 IO (io), A13 IO_L10N_1/VREF_1 (io), A14 IO_L01N_1/VRP_1 (io), B10 IO_L31P_1 (io), B11 IO_L29N_1 (io), B12 IO_L27N_1 (io), B13 IO_L10P_1 (io), B14 IO_L01P_1/VRN_1 (io), C9 IO_L32N_1/GCLK5 (io), C10 IO (io), C11 IO_L29P_1 (io), C12 IO_L27P_1 (io), D9 IO_L32P_1/GCLK4 (io), D10 IO_L30N_1 (io), D11 IO_L28N_1 (io), D12 IO/VREF_1 (io), E10 IO_L30P_1 (io), E11 IO_L28P_1 (io)
part C pins: B16 IO_L01N_2/VRP_2 (io), C15 IO_L16N_2 (io), C16 IO_L01P_2/VRN_2 (io), D14 IO_L16P_2 (io), D15 IO_L17N_2 (io), D16 IO_L17P_2/VREF_2 (io), E13 IO_L19N_2 (io), E14 IO_L19P_2 (io), E15 IO_L20N_2 (io), E16 IO_L20P_2 (io), F12 IO_L21N_2 (io), F13 IO_L21P_2 (io), F14 IO_L22N_2 (io), F15 IO_L22P_2 (io), G12 IO_L23N_2/VREF_2 (io), G13 IO_L23P_2 (io), G14 IO_L24N_2 (io), G15 IO_L24P_2 (io), G16 IO (io), H13 IO_L39N_2 (io), H14 IO_L39P_2 (io), H15 IO_L40N_2 (io), H16 IO_L40P_2/VREF_2 (io)
part D pins: J13 IO_L39P_3 (io), J14 IO_L39N_3 (io), J16 IO_L40N_3/VREF_3 (io), K12 IO_L23N_3 (io), K13 IO_L24P_3 (io), K14 IO_L24N_3 (io), K15 IO (io), K16 IO_L40P_3 (io), L12 IO_L23P_3/VREF_3 (io), L13 IO_L21N_3 (io), L14 IO_L22P_3 (io), L15 IO_L22N_3 (io), M13 IO_L21P_3 (io), M14 IO_L19N_3 (io), M15 IO_L20P_3 (io), M16 IO_L20N_3 (io), N14 IO_L19P_3 (io), N15 IO_L17P_3/VREF_3 (io), N16 IO_L17N_3 (io), P14 IO_L16P_3 (io), P15 IO_L16N_3 (io), P16 IO_L01N_3/VRP_3 (io), R16 IO_L01P_3/VRN_3 (io)
part E pins: M10 IO_L29N_4 (io), M11 IO_L27N_4/DIN/D0 (io), N9 IO_L31N_4/INIT_B (io), N10 IO_L29P_4 (io), N11 IO_L27P_4/D1 (io), N12 IO/VREF_4 (io), P9 IO_L31P_4/DOUT/BUSY (io), P10 IO_L30N_4/D2 (io), P11 IO_L28N_4 (io), P12 IO_L25N_4 (io), P13 IO/VREF_4 (io), R9 IO_L32N_4/GCLK1 (io), R10 IO_L30P_4/D3 (io), R11 IO_L28P_4 (io), R12 IO_L25P_4 (io), R13 IO_L01N_4/VRP_4 (io), T9 IO_L32P_4/GCLK0 (io), T10 IO/VREF_4 (io), T12 IO (io), T13 IO_L01P_4/VRN_4 (io), T14 IO (io)
part F pins: M6 IO_L28P_5/D7 (io), M7 IO_L30P_5 (io), N5 IO (io), N6 IO_L28N_5/D6 (io), N7 IO_L30N_5 (io), N8 IO_L32P_5/GCLK2 (io), P5 IO_L27P_5 (io), P6 IO_L29P_5/VREF_5 (io), P7 IO (io), P8 IO_L32N_5/GCLK3 (io), R3 IO_L01P_5/CS_B (io), R4 IO_L10P_5/VRN_5 (io), R5 IO_L27N_5/VREF_5 (io), R6 IO_L29N_5 (io), R7 IO_L31P_5/D5 (io), T3 IO_L01N_5/RDWR_B (io), T4 IO_L10N_5/VRP_5 (io), T5 IO (io), T7 IO_L31N_5/D4 (io), T8 IO/VREF_5 (io)
part G pins: J1 IO_L40P_6/VREF_6 (io), J2 IO_L40N_6 (io), J3 IO_L39P_6 (io), J4 IO_L39N_6 (io), K1 IO (io), K2 IO_L24P_6 (io), K3 IO_L24N_6/VREF_6 (io), K4 IO_L23P_6 (io), K5 IO_L23N_6 (io), L2 IO_L22P_6 (io), L3 IO_L22N_6 (io), L4 IO_L21P_6 (io), L5 IO_L21N_6 (io), M1 IO_L20P_6 (io), M2 IO_L20N_6 (io), M3 IO_L19P_6 (io), M4 IO_L19N_6 (io), N1 IO_L17P_6/VREF_6 (io), N2 IO_L17N_6 (io), N3 IO_L16P_6 (io), P1 IO_L01P_6/VRN_6 (io), P2 IO_L16N_6 (io), R1 IO_L01N_6/VRP_6 (io)
part H pins: B1 IO_L01P_7/VRN_7 (io), C1 IO_L01N_7/VRP_7 (io), C2 IO_L16N_7 (io), C3 IO_L16P_7/VREF_7 (io), D1 IO_L17N_7 (io), D2 IO_L17P_7 (io), D3 IO_L19P_7 (io), E1 IO_L20N_7 (io), E2 IO_L20P_7 (io), E3 IO_L19N_7/VREF_7 (io), E4 IO_L21P_7 (io), F2 IO_L22N_7 (io), F3 IO_L22P_7 (io), F4 IO_L21N_7 (io), F5 IO_L23P_7 (io), G1 IO_L40P_7 (io), G2 IO (io), G3 IO_L24N_7 (io), G4 IO_L24P_7 (io), G5 IO_L23N_7 (io), H1 IO_L40N_7/VREF_7 (io), H3 IO_L39N_7 (io), H4 IO_L39P_7 (io)
part I pins: A2 TDI (in), A15 TDO (out), B3 PROG_B (in), C4 HSWAP_EN (in), C13 TMS (in), C14 TCK (in), P3 M0 (in), P4 M2 (in), R14 DONE (io), T2 M1 (in), T15 CCLK (io)
part J pins: A6 VCCAUX (power), A11 VCCAUX (power), D4 VCCINT (power), D13 VCCINT (power), E5 VCCINT (power), E8 VCCO_0 (power), E9 VCCO_1 (power), E12 VCCINT (power), F1 VCCAUX (power), F7 VCCO_0 (power), F8 VCCO_0 (power), F9 VCCO_1 (power), F10 VCCO_1 (power), F16 VCCAUX (power), G6 VCCO_7 (power), G11 VCCO_2 (power), H5 VCCO_7 (power), H6 VCCO_7 (power), H11 VCCO_2 (power), H12 VCCO_2 (power), J5 VCCO_6 (power), J6 VCCO_6 (power), J11 VCCO_3 (power), J12 VCCO_3 (power), K6 VCCO_6 (power), K11 VCCO_3 (power), L1 VCCAUX (power), L7 VCCO_5 (power), L8 VCCO_5 (power), L9 VCCO_4 (power), L10 VCCO_4 (power), L16 VCCAUX (power), M5 VCCINT (power), M8 VCCO_5 (power), M9 VCCO_4 (power), M12 VCCINT (power), N4 VCCINT (power), N13 VCCINT (power), T6 VCCAUX (power), T11 VCCAUX (power)
part K pins: A1 GND (power), A16 GND (power), B2 GND (power), B9 GND (power), B15 GND (power), F6 GND (power), F11 GND (power), G7 GND (power), G8 GND (power), G9 GND (power), G10 GND (power), H2 GND (power), H7 GND (power), H8 GND (power), H9 GND (power), H10 GND (power), J7 GND (power), J8 GND (power), J9 GND (power), J10 GND (power), J15 GND (power), K7 GND (power), K8 GND (power), K9 GND (power), K10 GND (power), L6 GND (power), L11 GND (power), R2 GND (power), R8 GND (power), R15 GND (power), T1 GND (power), T16 GND (power)
part A text: BANK 0
part B text: BANK 1
part C text: BANK 2
part D text: BANK 3
part E text: BANK 4
part F text: BANK 5
part G text: BANK 6
part H text: BANK 7

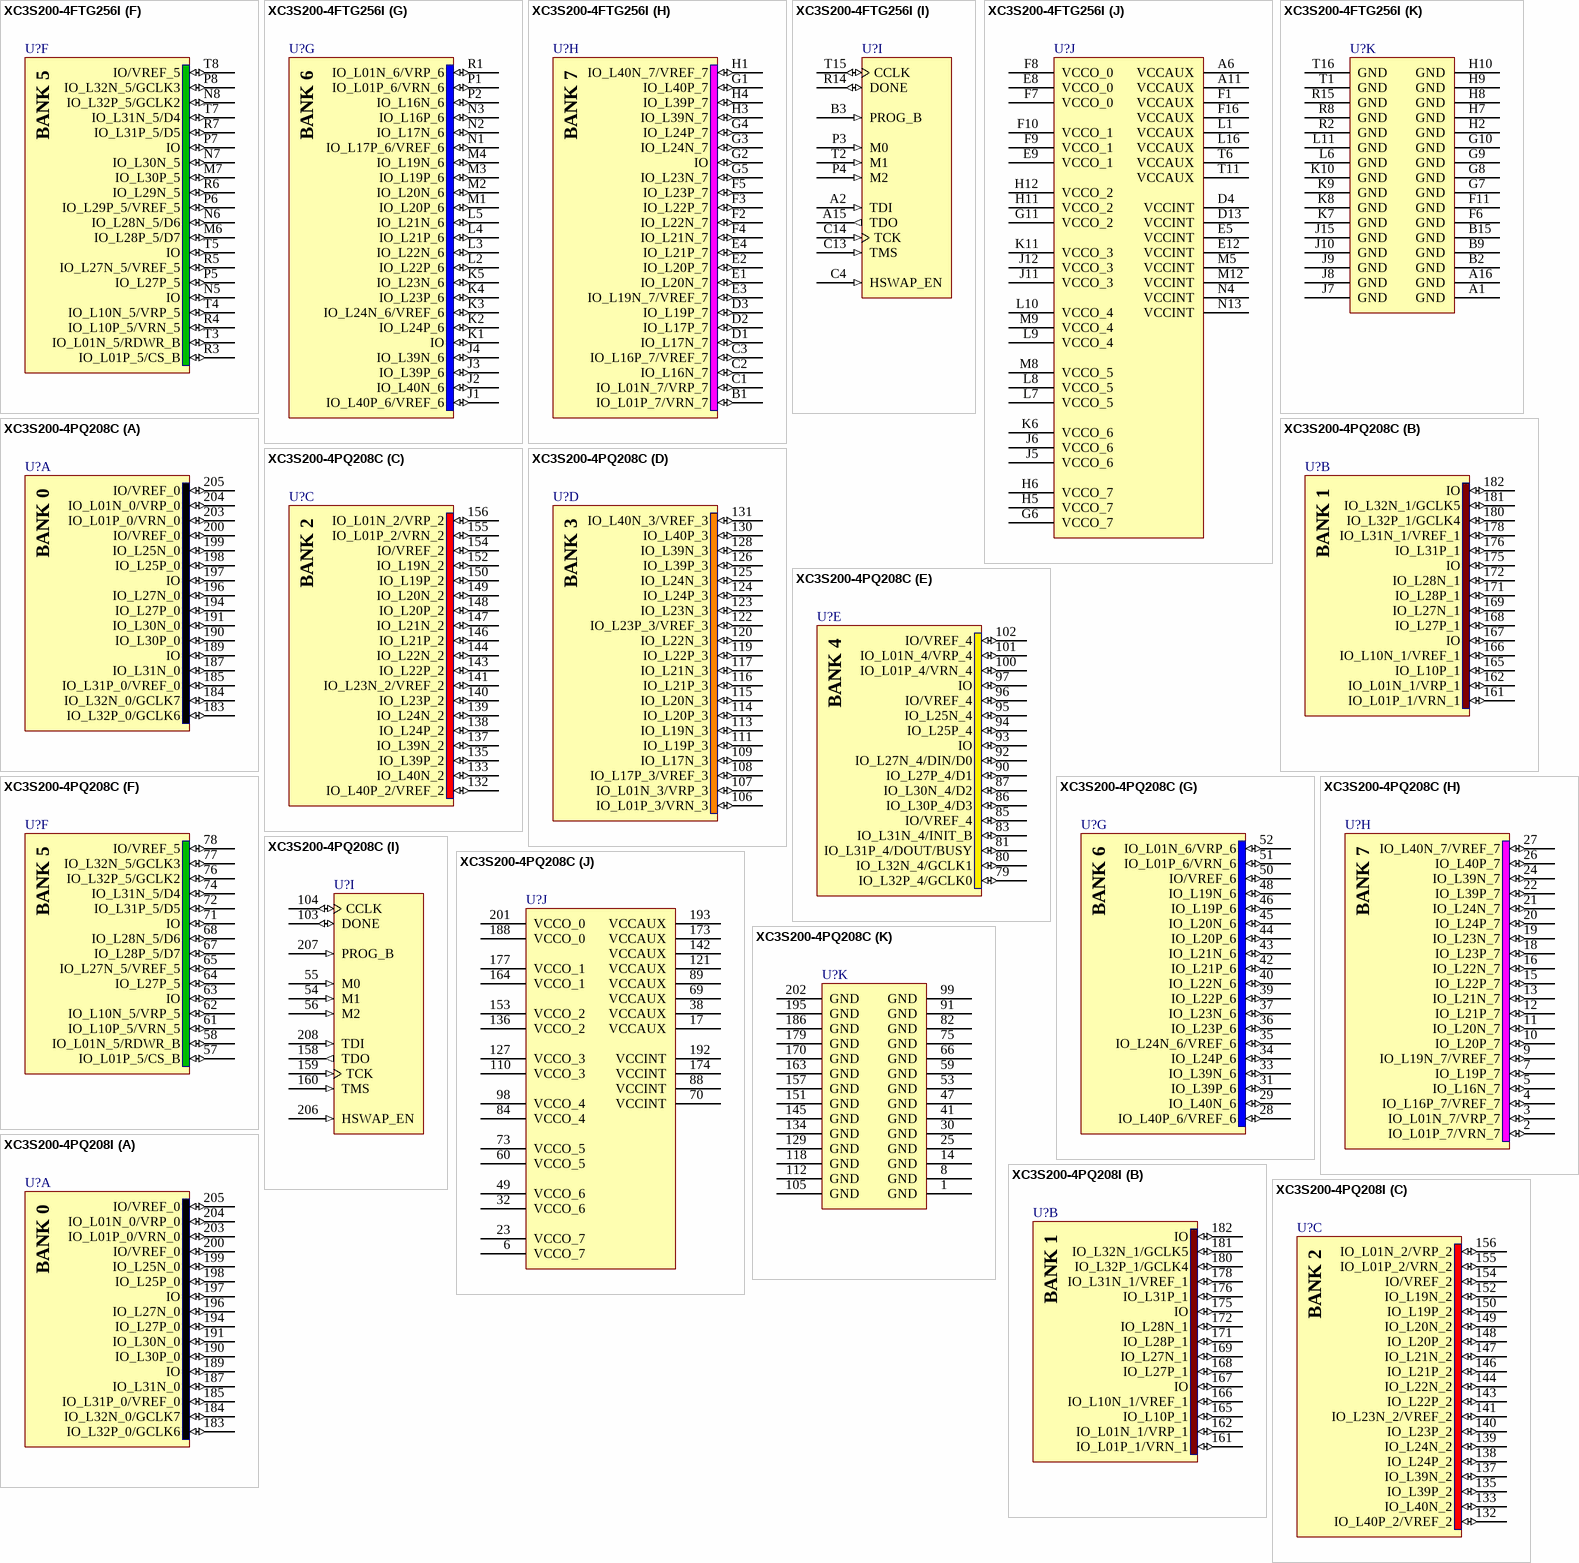
[diagram p12: symbols XC3S200-4FTG256I to XC3S200-4PQ208I]

## XC3S200-4FTG256I
designator U?
Spartan-3 1.2V FPGA, 173 User I/Os, 256-Ball FTBGA, Standard Performance, Industrial Grade, Pb-Free; OrderingInformation: Additional code may have to be appended for different mask revision devices.; Published: 16-Dec-2005; LatestRevisionDate: 01-Mar-2010; LatestRevisionNote: Updated to datasheet version 2.5 Dec-2009.; DatasheetVersion: ver2.5, Dec-2009; PackageVersion: ver1.3, Oct-2007; PackageReference: FTG256; Publisher: Altium Limited; PackageDescription: 256-Ball Fine Pitch Thin Ball Grid Array 1.00 mm Pitch (FTG256) - Pb-Free; Supplier 1: Digi-Key; Supplier Part Number 1: XC3S200-4FTG256I-ND; Code_JEDEC: MS-034-AAF-1*; ComponentLink1Description: Spartan-3 Datasheet; ComponentLink1URL: http://www.xilinx.com/support/documentation/data_sheets/ds099.pdf; ComponentLink2Description: FTG256 Package Drawing; ComponentLink2URL: http://www.xilinx.com/support/documentation/package_specs/ft256.pdf; ComponentLink3Description: Spartan-3 Documents; ComponentLink3URL: http://www.xilinx.com/support/documentation/spartan-3.htm; ComponentLink4Description: Xilinx.com Home; ComponentLink4URL: http://www.xilinx.com
footprint FTG256 (BGA, 256-Leads, Body 17x17mm, Pitch 1mm)
signal-integrity model XC3S200_FT256 (Spartan-3)
part A pins: A3 IO/VREF_0 (io), A4 IO_L01P_0/VRN_0 (io), A5 IO (io), A7 IO (io), A8 IO_L32P_0/GCLK6 (io), B4 IO_L01N_0/VRP_0 (io), B5 IO_L25P_0 (io), B6 IO_L28P_0 (io), B7 IO_L30P_0 (io), B8 IO_L32N_0/GCLK7 (io), C5 IO_L25N_0 (io), C6 IO_L28N_0 (io), C7 IO_L30N_0 (io), C8 IO_L31P_0/VREF_0 (io), D5 IO/VREF_0 (io), D6 IO_L27P_0 (io), D7 IO_L29P_0 (io), D8 IO_L31N_0 (io), E6 IO_L27N_0 (io), E7 IO_L29N_0 (io)
part B pins: A9 IO (io), A10 IO_L31N_1/VREF_1 (io), A12 IO (io), A13 IO_L10N_1/VREF_1 (io), A14 IO_L01N_1/VRP_1 (io), B10 IO_L31P_1 (io), B11 IO_L29N_1 (io), B12 IO_L27N_1 (io), B13 IO_L10P_1 (io), B14 IO_L01P_1/VRN_1 (io), C9 IO_L32N_1/GCLK5 (io), C10 IO (io), C11 IO_L29P_1 (io), C12 IO_L27P_1 (io), D9 IO_L32P_1/GCLK4 (io), D10 IO_L30N_1 (io), D11 IO_L28N_1 (io), D12 IO/VREF_1 (io), E10 IO_L30P_1 (io), E11 IO_L28P_1 (io)
part C pins: B16 IO_L01N_2/VRP_2 (io), C15 IO_L16N_2 (io), C16 IO_L01P_2/VRN_2 (io), D14 IO_L16P_2 (io), D15 IO_L17N_2 (io), D16 IO_L17P_2/VREF_2 (io), E13 IO_L19N_2 (io), E14 IO_L19P_2 (io), E15 IO_L20N_2 (io), E16 IO_L20P_2 (io), F12 IO_L21N_2 (io), F13 IO_L21P_2 (io), F14 IO_L22N_2 (io), F15 IO_L22P_2 (io), G12 IO_L23N_2/VREF_2 (io), G13 IO_L23P_2 (io), G14 IO_L24N_2 (io), G15 IO_L24P_2 (io), G16 IO (io), H13 IO_L39N_2 (io), H14 IO_L39P_2 (io), H15 IO_L40N_2 (io), H16 IO_L40P_2/VREF_2 (io)
part D pins: J13 IO_L39P_3 (io), J14 IO_L39N_3 (io), J16 IO_L40N_3/VREF_3 (io), K12 IO_L23N_3 (io), K13 IO_L24P_3 (io), K14 IO_L24N_3 (io), K15 IO (io), K16 IO_L40P_3 (io), L12 IO_L23P_3/VREF_3 (io), L13 IO_L21N_3 (io), L14 IO_L22P_3 (io), L15 IO_L22N_3 (io), M13 IO_L21P_3 (io), M14 IO_L19N_3 (io), M15 IO_L20P_3 (io), M16 IO_L20N_3 (io), N14 IO_L19P_3 (io), N15 IO_L17P_3/VREF_3 (io), N16 IO_L17N_3 (io), P14 IO_L16P_3 (io), P15 IO_L16N_3 (io), P16 IO_L01N_3/VRP_3 (io), R16 IO_L01P_3/VRN_3 (io)
part E pins: M10 IO_L29N_4 (io), M11 IO_L27N_4/DIN/D0 (io), N9 IO_L31N_4/INIT_B (io), N10 IO_L29P_4 (io), N11 IO_L27P_4/D1 (io), N12 IO/VREF_4 (io), P9 IO_L31P_4/DOUT/BUSY (io), P10 IO_L30N_4/D2 (io), P11 IO_L28N_4 (io), P12 IO_L25N_4 (io), P13 IO/VREF_4 (io), R9 IO_L32N_4/GCLK1 (io), R10 IO_L30P_4/D3 (io), R11 IO_L28P_4 (io), R12 IO_L25P_4 (io), R13 IO_L01N_4/VRP_4 (io), T9 IO_L32P_4/GCLK0 (io), T10 IO/VREF_4 (io), T12 IO (io), T13 IO_L01P_4/VRN_4 (io), T14 IO (io)
part F pins: M6 IO_L28P_5/D7 (io), M7 IO_L30P_5 (io), N5 IO (io), N6 IO_L28N_5/D6 (io), N7 IO_L30N_5 (io), N8 IO_L32P_5/GCLK2 (io), P5 IO_L27P_5 (io), P6 IO_L29P_5/VREF_5 (io), P7 IO (io), P8 IO_L32N_5/GCLK3 (io), R3 IO_L01P_5/CS_B (io), R4 IO_L10P_5/VRN_5 (io), R5 IO_L27N_5/VREF_5 (io), R6 IO_L29N_5 (io), R7 IO_L31P_5/D5 (io), T3 IO_L01N_5/RDWR_B (io), T4 IO_L10N_5/VRP_5 (io), T5 IO (io), T7 IO_L31N_5/D4 (io), T8 IO/VREF_5 (io)
part G pins: J1 IO_L40P_6/VREF_6 (io), J2 IO_L40N_6 (io), J3 IO_L39P_6 (io), J4 IO_L39N_6 (io), K1 IO (io), K2 IO_L24P_6 (io), K3 IO_L24N_6/VREF_6 (io), K4 IO_L23P_6 (io), K5 IO_L23N_6 (io), L2 IO_L22P_6 (io), L3 IO_L22N_6 (io), L4 IO_L21P_6 (io), L5 IO_L21N_6 (io), M1 IO_L20P_6 (io), M2 IO_L20N_6 (io), M3 IO_L19P_6 (io), M4 IO_L19N_6 (io), N1 IO_L17P_6/VREF_6 (io), N2 IO_L17N_6 (io), N3 IO_L16P_6 (io), P1 IO_L01P_6/VRN_6 (io), P2 IO_L16N_6 (io), R1 IO_L01N_6/VRP_6 (io)
part H pins: B1 IO_L01P_7/VRN_7 (io), C1 IO_L01N_7/VRP_7 (io), C2 IO_L16N_7 (io), C3 IO_L16P_7/VREF_7 (io), D1 IO_L17N_7 (io), D2 IO_L17P_7 (io), D3 IO_L19P_7 (io), E1 IO_L20N_7 (io), E2 IO_L20P_7 (io), E3 IO_L19N_7/VREF_7 (io), E4 IO_L21P_7 (io), F2 IO_L22N_7 (io), F3 IO_L22P_7 (io), F4 IO_L21N_7 (io), F5 IO_L23P_7 (io), G1 IO_L40P_7 (io), G2 IO (io), G3 IO_L24N_7 (io), G4 IO_L24P_7 (io), G5 IO_L23N_7 (io), H1 IO_L40N_7/VREF_7 (io), H3 IO_L39N_7 (io), H4 IO_L39P_7 (io)
part I pins: A2 TDI (in), A15 TDO (out), B3 PROG_B (in), C4 HSWAP_EN (in), C13 TMS (in), C14 TCK (in), P3 M0 (in), P4 M2 (in), R14 DONE (io), T2 M1 (in), T15 CCLK (io)
part J pins: A6 VCCAUX (power), A11 VCCAUX (power), D4 VCCINT (power), D13 VCCINT (power), E5 VCCINT (power), E8 VCCO_0 (power), E9 VCCO_1 (power), E12 VCCINT (power), F1 VCCAUX (power), F7 VCCO_0 (power), F8 VCCO_0 (power), F9 VCCO_1 (power), F10 VCCO_1 (power), F16 VCCAUX (power), G6 VCCO_7 (power), G11 VCCO_2 (power), H5 VCCO_7 (power), H6 VCCO_7 (power), H11 VCCO_2 (power), H12 VCCO_2 (power), J5 VCCO_6 (power), J6 VCCO_6 (power), J11 VCCO_3 (power), J12 VCCO_3 (power), K6 VCCO_6 (power), K11 VCCO_3 (power), L1 VCCAUX (power), L7 VCCO_5 (power), L8 VCCO_5 (power), L9 VCCO_4 (power), L10 VCCO_4 (power), L16 VCCAUX (power), M5 VCCINT (power), M8 VCCO_5 (power), M9 VCCO_4 (power), M12 VCCINT (power), N4 VCCINT (power), N13 VCCINT (power), T6 VCCAUX (power), T11 VCCAUX (power)
part K pins: A1 GND (power), A16 GND (power), B2 GND (power), B9 GND (power), B15 GND (power), F6 GND (power), F11 GND (power), G7 GND (power), G8 GND (power), G9 GND (power), G10 GND (power), H2 GND (power), H7 GND (power), H8 GND (power), H9 GND (power), H10 GND (power), J7 GND (power), J8 GND (power), J9 GND (power), J10 GND (power), J15 GND (power), K7 GND (power), K8 GND (power), K9 GND (power), K10 GND (power), L6 GND (power), L11 GND (power), R2 GND (power), R8 GND (power), R15 GND (power), T1 GND (power), T16 GND (power)
part A text: BANK 0
part B text: BANK 1
part C text: BANK 2
part D text: BANK 3
part E text: BANK 4
part F text: BANK 5
part G text: BANK 6
part H text: BANK 7

## XC3S200-4PQ208C
designator U?
Spartan-3 1.2V FPGA, 141 User I/Os, 208-Pin PQFP, Standard Performance, Commercial Grade; OrderingInformation: Additional code may have to be appended for different mask revision devices.; Published: 17-Sep-2003; LatestRevisionDate: 01-Mar-2010; LatestRevisionNote: Updated to datasheet version 2.5 Dec-2009.; DatasheetVersion: ver2.5, Dec-2009; PackageVersion: ver1.2, Jun-2004; PackageReference: PQ208; Publisher: Altium Limited; PackageDescription: 208-Pin Plastic Quad Flat Pack (PQ208); Code_JEDEC: MS-029-FA-1; ComponentLink1Description: Spartan-3 Datasheet; ComponentLink1URL: http://www.xilinx.com/support/documentation/data_sheets/ds099.pdf; ComponentLink2Description: PQ208 Package Drawing; ComponentLink2URL: http://www.xilinx.com/support/documentation/package_specs/pq208.pdf; ComponentLink3Description: Spartan-3 Documents; ComponentLink3URL: http://www.xilinx.com/support/documentation/spartan-3.htm; ComponentLink4Description: Xilinx.com Home; ComponentLink4URL: http://www.xilinx.com
footprint PQ208_N (Shrink QFP, 208-Leads, Body 28x28mm, Pitch 0.5mm, IPC Medium Density)
footprint PQ208_L (Shrink QFP, 208-Leads, Body 28x28mm, Pitch 0.5mm, IPC High Density)
footprint PQ208_M (Shrink QFP, 208-Leads, Body 28x28mm, Pitch 0.5mm, IPC Low Density)
signal-integrity model XC3S200_PQ208 (Spartan-3)
part A pins: 183 IO_L32P_0/GCLK6 (io), 184 IO_L32N_0/GCLK7 (io), 185 IO_L31P_0/VREF_0 (io), 187 IO_L31N_0 (io), 189 IO (io), 190 IO_L30P_0 (io), 191 IO_L30N_0 (io), 194 IO_L27P_0 (io), 196 IO_L27N_0 (io), 197 IO (io), 198 IO_L25P_0 (io), 199 IO_L25N_0 (io), 200 IO/VREF_0 (io), 203 IO_L01P_0/VRN_0 (io), 204 IO_L01N_0/VRP_0 (io), 205 IO/VREF_0 (io)
part B pins: 161 IO_L01P_1/VRN_1 (io), 162 IO_L01N_1/VRP_1 (io), 165 IO_L10P_1 (io), 166 IO_L10N_1/VREF_1 (io), 167 IO (io), 168 IO_L27P_1 (io), 169 IO_L27N_1 (io), 171 IO_L28P_1 (io), 172 IO_L28N_1 (io), 175 IO (io), 176 IO_L31P_1 (io), 178 IO_L31N_1/VREF_1 (io), 180 IO_L32P_1/GCLK4 (io), 181 IO_L32N_1/GCLK5 (io), 182 IO (io)
part C pins: 132 IO_L40P_2/VREF_2 (io), 133 IO_L40N_2 (io), 135 IO_L39P_2 (io), 137 IO_L39N_2 (io), 138 IO_L24P_2 (io), 139 IO_L24N_2 (io), 140 IO_L23P_2 (io), 141 IO_L23N_2/VREF_2 (io), 143 IO_L22P_2 (io), 144 IO_L22N_2 (io), 146 IO_L21P_2 (io), 147 IO_L21N_2 (io), 148 IO_L20P_2 (io), 149 IO_L20N_2 (io), 150 IO_L19P_2 (io), 152 IO_L19N_2 (io), 154 IO/VREF_2 (io), 155 IO_L01P_2/VRN_2 (io), 156 IO_L01N_2/VRP_2 (io)
part D pins: 106 IO_L01P_3/VRN_3 (io), 107 IO_L01N_3/VRP_3 (io), 108 IO_L17P_3/VREF_3 (io), 109 IO_L17N_3 (io), 111 IO_L19P_3 (io), 113 IO_L19N_3 (io), 114 IO_L20P_3 (io), 115 IO_L20N_3 (io), 116 IO_L21P_3 (io), 117 IO_L21N_3 (io), 119 IO_L22P_3 (io), 120 IO_L22N_3 (io), 122 IO_L23P_3/VREF_3 (io), 123 IO_L23N_3 (io), 124 IO_L24P_3 (io), 125 IO_L24N_3 (io), 126 IO_L39P_3 (io), 128 IO_L39N_3 (io), 130 IO_L40P_3 (io), 131 IO_L40N_3/VREF_3 (io)
part E pins: 79 IO_L32P_4/GCLK0 (io), 80 IO_L32N_4/GCLK1 (io), 81 IO_L31P_4/DOUT/BUSY (io), 83 IO_L31N_4/INIT_B (io), 85 IO/VREF_4 (io), 86 IO_L30P_4/D3 (io), 87 IO_L30N_4/D2 (io), 90 IO_L27P_4/D1 (io), 92 IO_L27N_4/DIN/D0 (io), 93 IO (io), 94 IO_L25P_4 (io), 95 IO_L25N_4 (io), 96 IO/VREF_4 (io), 97 IO (io), 100 IO_L01P_4/VRN_4 (io), 101 IO_L01N_4/VRP_4 (io), 102 IO/VREF_4 (io)
part F pins: 57 IO_L01P_5/CS_B (io), 58 IO_L01N_5/RDWR_B (io), 61 IO_L10P_5/VRN_5 (io), 62 IO_L10N_5/VRP_5 (io), 63 IO (io), 64 IO_L27P_5 (io), 65 IO_L27N_5/VREF_5 (io), 67 IO_L28P_5/D7 (io), 68 IO_L28N_5/D6 (io), 71 IO (io), 72 IO_L31P_5/D5 (io), 74 IO_L31N_5/D4 (io), 76 IO_L32P_5/GCLK2 (io), 77 IO_L32N_5/GCLK3 (io), 78 IO/VREF_5 (io)
part G pins: 28 IO_L40P_6/VREF_6 (io), 29 IO_L40N_6 (io), 31 IO_L39P_6 (io), 33 IO_L39N_6 (io), 34 IO_L24P_6 (io), 35 IO_L24N_6/VREF_6 (io), 36 IO_L23P_6 (io), 37 IO_L23N_6 (io), 39 IO_L22P_6 (io), 40 IO_L22N_6 (io), 42 IO_L21P_6 (io), 43 IO_L21N_6 (io), 44 IO_L20P_6 (io), 45 IO_L20N_6 (io), 46 IO_L19P_6 (io), 48 IO_L19N_6 (io), 50 IO/VREF_6 (io), 51 IO_L01P_6/VRN_6 (io), 52 IO_L01N_6/VRP_6 (io)
part H pins: 2 IO_L01P_7/VRN_7 (io), 3 IO_L01N_7/VRP_7 (io), 4 IO_L16P_7/VREF_7 (io), 5 IO_L16N_7 (io), 7 IO_L19P_7 (io), 9 IO_L19N_7/VREF_7 (io), 10 IO_L20P_7 (io), 11 IO_L20N_7 (io), 12 IO_L21P_7 (io), 13 IO_L21N_7 (io), 15 IO_L22P_7 (io), 16 IO_L22N_7 (io), 18 IO_L23P_7 (io), 19 IO_L23N_7 (io), 20 IO_L24P_7 (io), 21 IO_L24N_7 (io), 22 IO_L39P_7 (io), 24 IO_L39N_7 (io), 26 IO_L40P_7 (io), 27 IO_L40N_7/VREF_7 (io)
part I pins: 54 M1 (in), 55 M0 (in), 56 M2 (in), 103 DONE (io), 104 CCLK (io), 158 TDO (out), 159 TCK (in), 160 TMS (in), 206 HSWAP_EN (in), 207 PROG_B (in), 208 TDI (in)
part J pins: 6 VCCO_7 (power), 17 VCCAUX (power), 23 VCCO_7 (power), 32 VCCO_6 (power), 38 VCCAUX (power), 49 VCCO_6 (power), 60 VCCO_5 (power), 69 VCCAUX (power), 70 VCCINT (power), 73 VCCO_5 (power), 84 VCCO_4 (power), 88 VCCINT (power), 89 VCCAUX (power), 98 VCCO_4 (power), 110 VCCO_3 (power), 121 VCCAUX (power), 127 VCCO_3 (power), 136 VCCO_2 (power), 142 VCCAUX (power), 153 VCCO_2 (power), 164 VCCO_1 (power), 173 VCCAUX (power), 174 VCCINT (power), 177 VCCO_1 (power), 188 VCCO_0 (power), 192 VCCINT (power), 193 VCCAUX (power), 201 VCCO_0 (power)
part K pins: 1 GND (power), 8 GND (power), 14 GND (power), 25 GND (power), 30 GND (power), 41 GND (power), 47 GND (power), 53 GND (power), 59 GND (power), 66 GND (power), 75 GND (power), 82 GND (power), 91 GND (power), 99 GND (power), 105 GND (power), 112 GND (power), 118 GND (power), 129 GND (power), 134 GND (power), 145 GND (power), 151 GND (power), 157 GND (power), 163 GND (power), 170 GND (power), 179 GND (power), 186 GND (power), 195 GND (power), 202 GND (power)
part A text: BANK 0
part B text: BANK 1
part C text: BANK 2
part D text: BANK 3
part E text: BANK 4
part F text: BANK 5
part G text: BANK 6
part H text: BANK 7

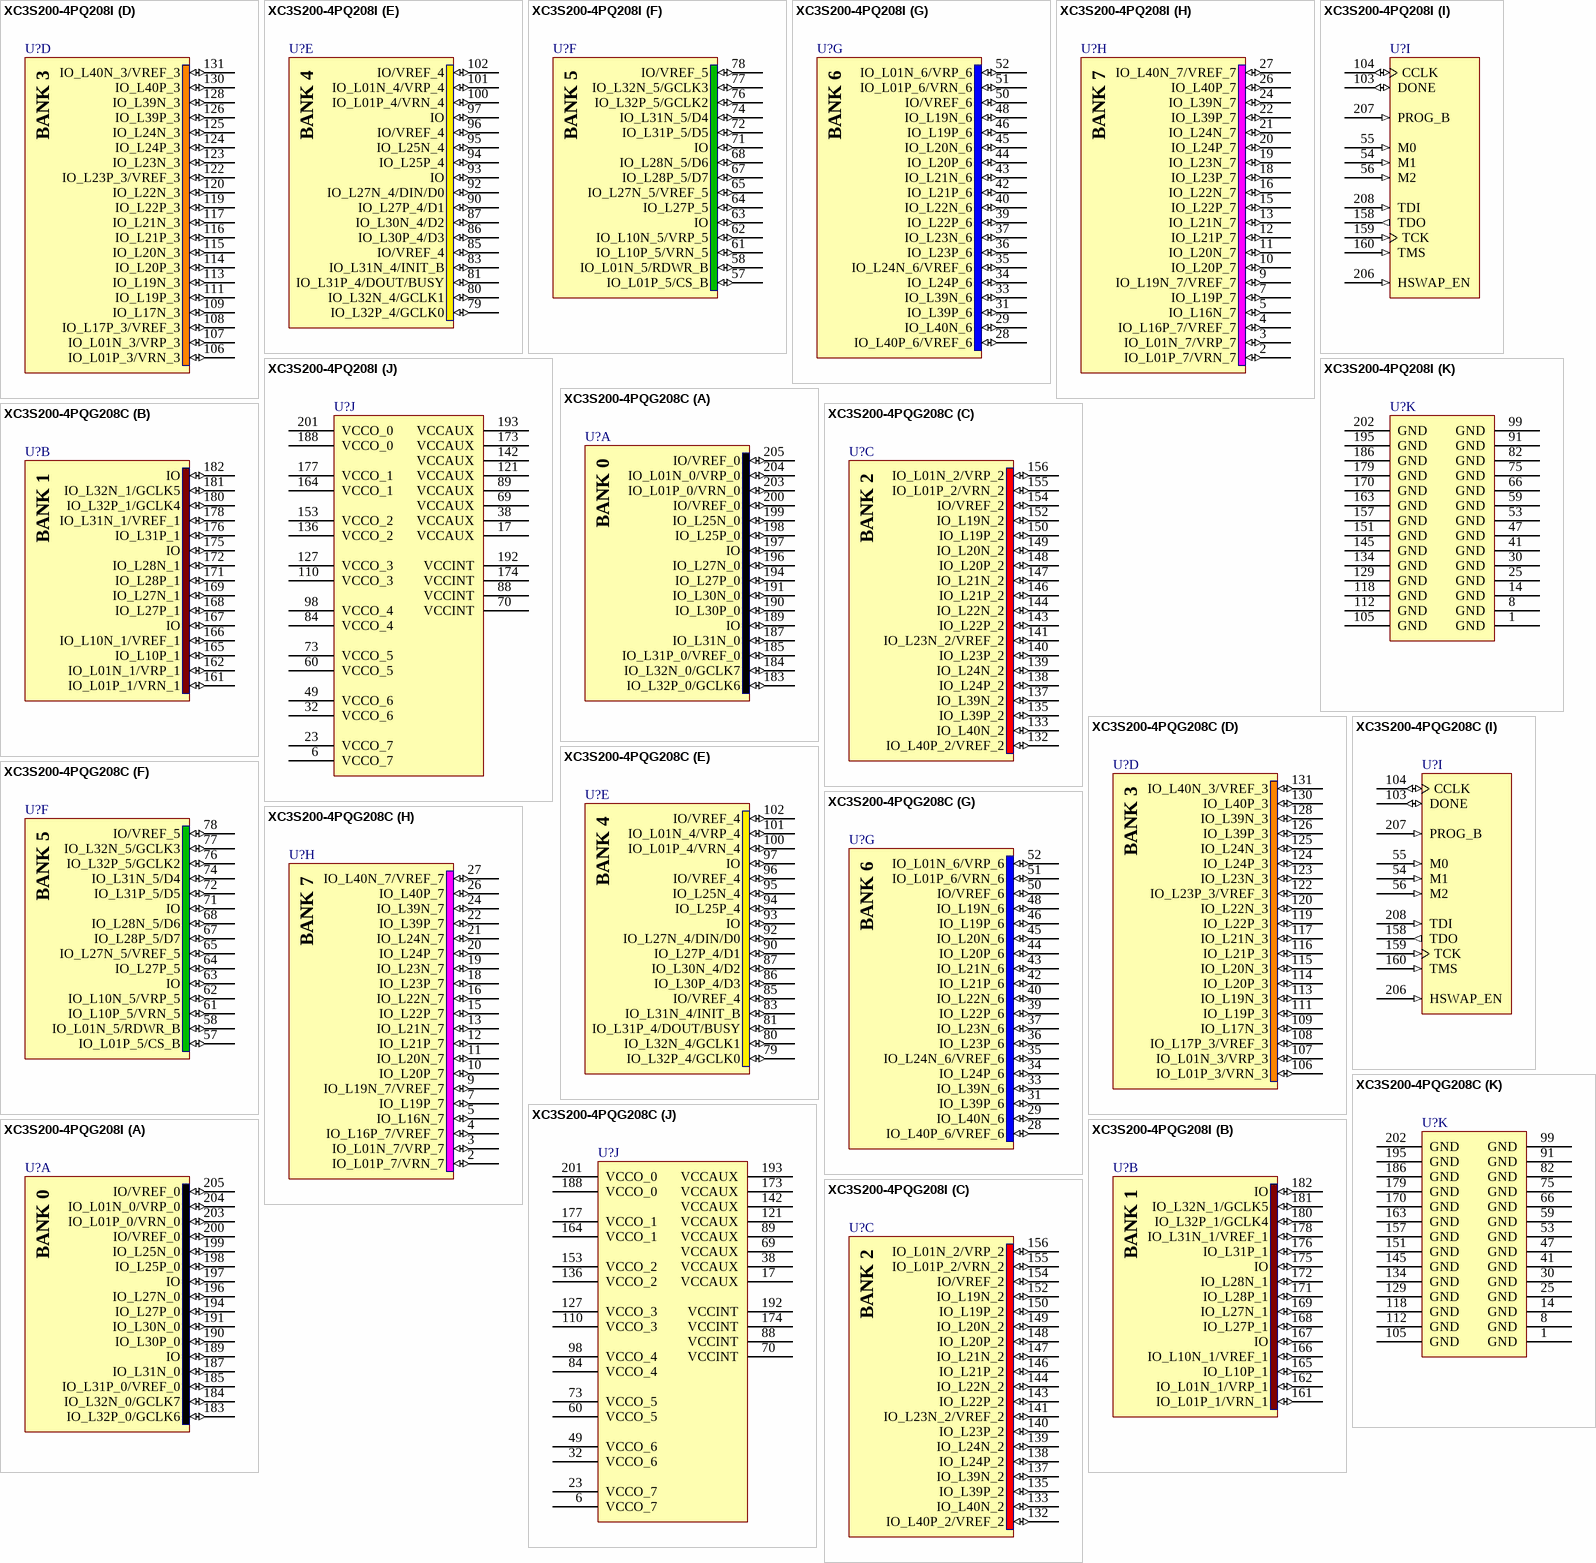
[diagram p13: symbols XC3S200-4PQ208I to XC3S200-4PQG208I]

## XC3S200-4PQ208I
designator U?
Spartan-3 1.2V FPGA, 141 User I/Os, 208-Pin PQFP, Standard Performance, Industrial Grade; OrderingInformation: Additional code may have to be appended for different mask revision devices.; Published: 17-Sep-2003; LatestRevisionDate: 01-Mar-2010; LatestRevisionNote: Updated to datasheet version 2.5 Dec-2009.; DatasheetVersion: ver2.5, Dec-2009; PackageVersion: ver1.2, Jun-2004; PackageReference: PQ208; Publisher: Altium Limited; PackageDescription: 208-Pin Plastic Quad Flat Pack (PQ208); Code_JEDEC: MS-029-FA-1; ComponentLink1Description: Spartan-3 Datasheet; ComponentLink1URL: http://www.xilinx.com/support/documentation/data_sheets/ds099.pdf; ComponentLink2Description: PQ208 Package Drawing; ComponentLink2URL: http://www.xilinx.com/support/documentation/package_specs/pq208.pdf; ComponentLink3Description: Spartan-3 Documents; ComponentLink3URL: http://www.xilinx.com/support/documentation/spartan-3.htm; ComponentLink4Description: Xilinx.com Home; ComponentLink4URL: http://www.xilinx.com
footprint PQ208_N (Shrink QFP, 208-Leads, Body 28x28mm, Pitch 0.5mm, IPC Medium Density)
footprint PQ208_L (Shrink QFP, 208-Leads, Body 28x28mm, Pitch 0.5mm, IPC High Density)
footprint PQ208_M (Shrink QFP, 208-Leads, Body 28x28mm, Pitch 0.5mm, IPC Low Density)
signal-integrity model XC3S200_PQ208 (Spartan-3)
part A pins: 183 IO_L32P_0/GCLK6 (io), 184 IO_L32N_0/GCLK7 (io), 185 IO_L31P_0/VREF_0 (io), 187 IO_L31N_0 (io), 189 IO (io), 190 IO_L30P_0 (io), 191 IO_L30N_0 (io), 194 IO_L27P_0 (io), 196 IO_L27N_0 (io), 197 IO (io), 198 IO_L25P_0 (io), 199 IO_L25N_0 (io), 200 IO/VREF_0 (io), 203 IO_L01P_0/VRN_0 (io), 204 IO_L01N_0/VRP_0 (io), 205 IO/VREF_0 (io)
part B pins: 161 IO_L01P_1/VRN_1 (io), 162 IO_L01N_1/VRP_1 (io), 165 IO_L10P_1 (io), 166 IO_L10N_1/VREF_1 (io), 167 IO (io), 168 IO_L27P_1 (io), 169 IO_L27N_1 (io), 171 IO_L28P_1 (io), 172 IO_L28N_1 (io), 175 IO (io), 176 IO_L31P_1 (io), 178 IO_L31N_1/VREF_1 (io), 180 IO_L32P_1/GCLK4 (io), 181 IO_L32N_1/GCLK5 (io), 182 IO (io)
part C pins: 132 IO_L40P_2/VREF_2 (io), 133 IO_L40N_2 (io), 135 IO_L39P_2 (io), 137 IO_L39N_2 (io), 138 IO_L24P_2 (io), 139 IO_L24N_2 (io), 140 IO_L23P_2 (io), 141 IO_L23N_2/VREF_2 (io), 143 IO_L22P_2 (io), 144 IO_L22N_2 (io), 146 IO_L21P_2 (io), 147 IO_L21N_2 (io), 148 IO_L20P_2 (io), 149 IO_L20N_2 (io), 150 IO_L19P_2 (io), 152 IO_L19N_2 (io), 154 IO/VREF_2 (io), 155 IO_L01P_2/VRN_2 (io), 156 IO_L01N_2/VRP_2 (io)
part D pins: 106 IO_L01P_3/VRN_3 (io), 107 IO_L01N_3/VRP_3 (io), 108 IO_L17P_3/VREF_3 (io), 109 IO_L17N_3 (io), 111 IO_L19P_3 (io), 113 IO_L19N_3 (io), 114 IO_L20P_3 (io), 115 IO_L20N_3 (io), 116 IO_L21P_3 (io), 117 IO_L21N_3 (io), 119 IO_L22P_3 (io), 120 IO_L22N_3 (io), 122 IO_L23P_3/VREF_3 (io), 123 IO_L23N_3 (io), 124 IO_L24P_3 (io), 125 IO_L24N_3 (io), 126 IO_L39P_3 (io), 128 IO_L39N_3 (io), 130 IO_L40P_3 (io), 131 IO_L40N_3/VREF_3 (io)
part E pins: 79 IO_L32P_4/GCLK0 (io), 80 IO_L32N_4/GCLK1 (io), 81 IO_L31P_4/DOUT/BUSY (io), 83 IO_L31N_4/INIT_B (io), 85 IO/VREF_4 (io), 86 IO_L30P_4/D3 (io), 87 IO_L30N_4/D2 (io), 90 IO_L27P_4/D1 (io), 92 IO_L27N_4/DIN/D0 (io), 93 IO (io), 94 IO_L25P_4 (io), 95 IO_L25N_4 (io), 96 IO/VREF_4 (io), 97 IO (io), 100 IO_L01P_4/VRN_4 (io), 101 IO_L01N_4/VRP_4 (io), 102 IO/VREF_4 (io)
part F pins: 57 IO_L01P_5/CS_B (io), 58 IO_L01N_5/RDWR_B (io), 61 IO_L10P_5/VRN_5 (io), 62 IO_L10N_5/VRP_5 (io), 63 IO (io), 64 IO_L27P_5 (io), 65 IO_L27N_5/VREF_5 (io), 67 IO_L28P_5/D7 (io), 68 IO_L28N_5/D6 (io), 71 IO (io), 72 IO_L31P_5/D5 (io), 74 IO_L31N_5/D4 (io), 76 IO_L32P_5/GCLK2 (io), 77 IO_L32N_5/GCLK3 (io), 78 IO/VREF_5 (io)
part G pins: 28 IO_L40P_6/VREF_6 (io), 29 IO_L40N_6 (io), 31 IO_L39P_6 (io), 33 IO_L39N_6 (io), 34 IO_L24P_6 (io), 35 IO_L24N_6/VREF_6 (io), 36 IO_L23P_6 (io), 37 IO_L23N_6 (io), 39 IO_L22P_6 (io), 40 IO_L22N_6 (io), 42 IO_L21P_6 (io), 43 IO_L21N_6 (io), 44 IO_L20P_6 (io), 45 IO_L20N_6 (io), 46 IO_L19P_6 (io), 48 IO_L19N_6 (io), 50 IO/VREF_6 (io), 51 IO_L01P_6/VRN_6 (io), 52 IO_L01N_6/VRP_6 (io)
part H pins: 2 IO_L01P_7/VRN_7 (io), 3 IO_L01N_7/VRP_7 (io), 4 IO_L16P_7/VREF_7 (io), 5 IO_L16N_7 (io), 7 IO_L19P_7 (io), 9 IO_L19N_7/VREF_7 (io), 10 IO_L20P_7 (io), 11 IO_L20N_7 (io), 12 IO_L21P_7 (io), 13 IO_L21N_7 (io), 15 IO_L22P_7 (io), 16 IO_L22N_7 (io), 18 IO_L23P_7 (io), 19 IO_L23N_7 (io), 20 IO_L24P_7 (io), 21 IO_L24N_7 (io), 22 IO_L39P_7 (io), 24 IO_L39N_7 (io), 26 IO_L40P_7 (io), 27 IO_L40N_7/VREF_7 (io)
part I pins: 54 M1 (in), 55 M0 (in), 56 M2 (in), 103 DONE (io), 104 CCLK (io), 158 TDO (out), 159 TCK (in), 160 TMS (in), 206 HSWAP_EN (in), 207 PROG_B (in), 208 TDI (in)
part J pins: 6 VCCO_7 (power), 17 VCCAUX (power), 23 VCCO_7 (power), 32 VCCO_6 (power), 38 VCCAUX (power), 49 VCCO_6 (power), 60 VCCO_5 (power), 69 VCCAUX (power), 70 VCCINT (power), 73 VCCO_5 (power), 84 VCCO_4 (power), 88 VCCINT (power), 89 VCCAUX (power), 98 VCCO_4 (power), 110 VCCO_3 (power), 121 VCCAUX (power), 127 VCCO_3 (power), 136 VCCO_2 (power), 142 VCCAUX (power), 153 VCCO_2 (power), 164 VCCO_1 (power), 173 VCCAUX (power), 174 VCCINT (power), 177 VCCO_1 (power), 188 VCCO_0 (power), 192 VCCINT (power), 193 VCCAUX (power), 201 VCCO_0 (power)
part K pins: 1 GND (power), 8 GND (power), 14 GND (power), 25 GND (power), 30 GND (power), 41 GND (power), 47 GND (power), 53 GND (power), 59 GND (power), 66 GND (power), 75 GND (power), 82 GND (power), 91 GND (power), 99 GND (power), 105 GND (power), 112 GND (power), 118 GND (power), 129 GND (power), 134 GND (power), 145 GND (power), 151 GND (power), 157 GND (power), 163 GND (power), 170 GND (power), 179 GND (power), 186 GND (power), 195 GND (power), 202 GND (power)
part A text: BANK 0
part B text: BANK 1
part C text: BANK 2
part D text: BANK 3
part E text: BANK 4
part F text: BANK 5
part G text: BANK 6
part H text: BANK 7